# Altium schematic symbol library conn_b2b.SchLib: 77 symbols (part 2 of 3)
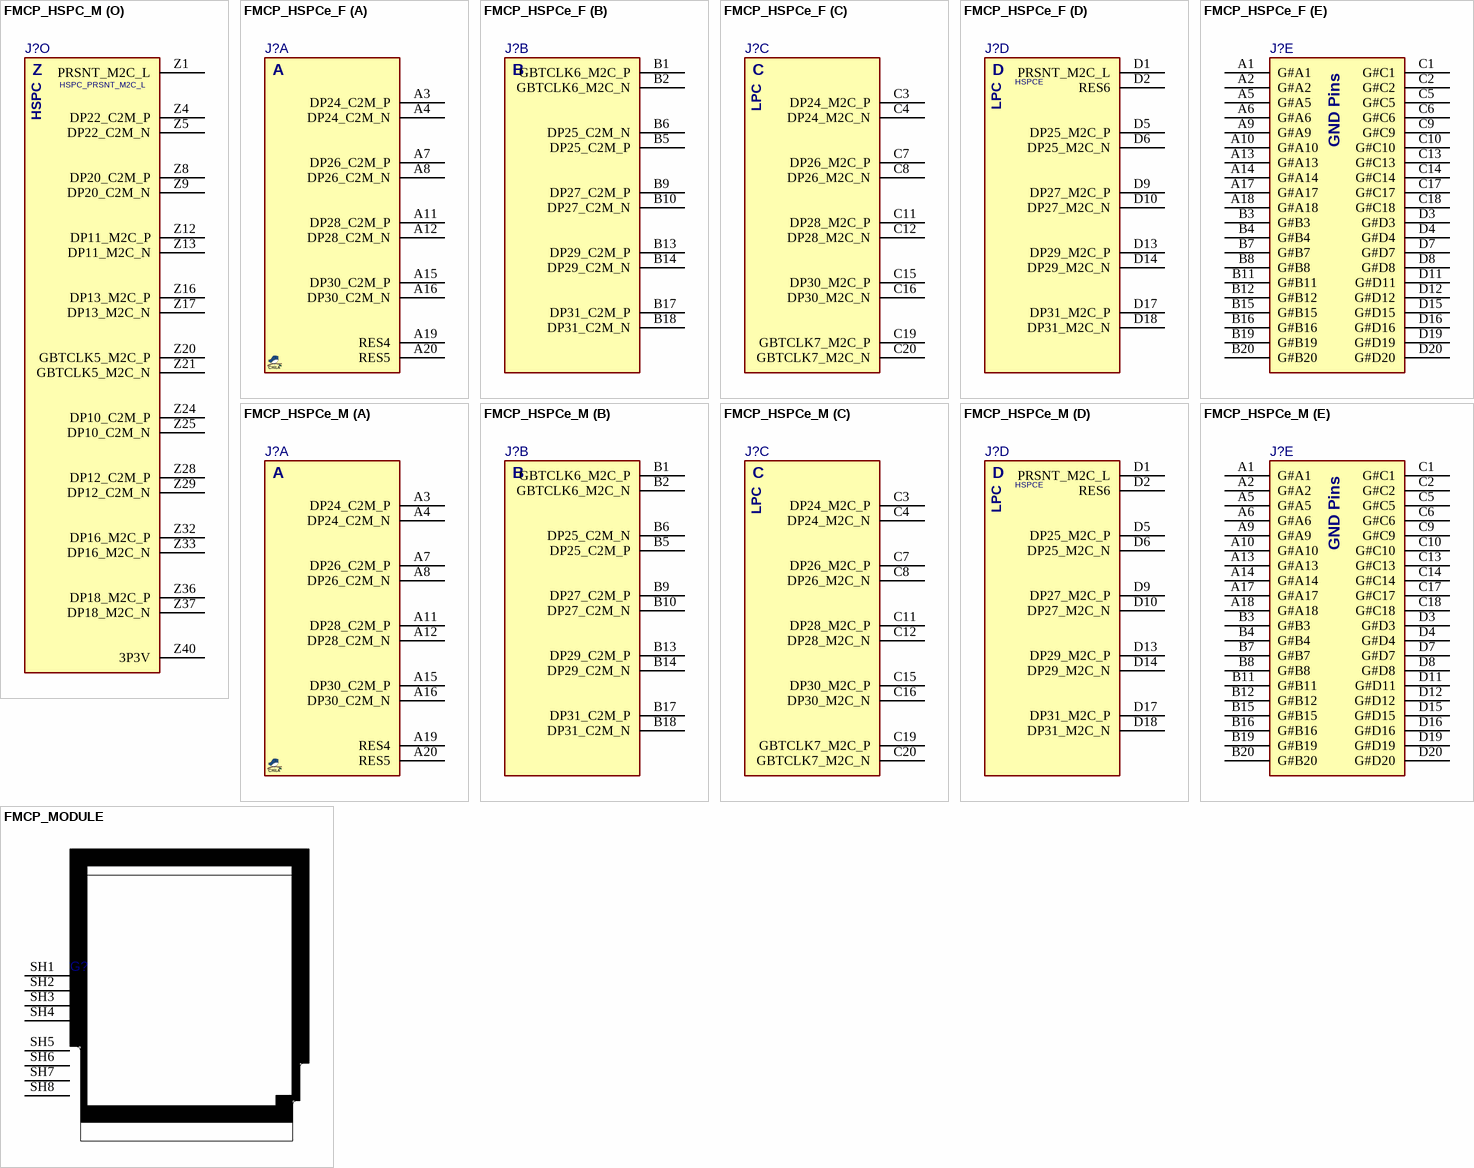
[diagram p24: symbols FMCP_HSPC_M to FMCP_MODULE]

## FMCP_HSPCe_M
designator J?, comment FMC+_HSPC_M  (value not drawn)
CONN, FMC+ HSPCe, 80PIN, MALE for Module; DESC: ASP-186900-01 for module/ ASP-186899-01 for carrier; MANF: SAMTEC; MANF_P#: ASP-186900-01, SEAM-20-03.5-S-04-1-A-K; PARAM: FMC+ HSPCe, 80PIN, Module; PRICE: 11$; VALUE: FMC+_HSPC_M
footprint FMCP_HSPCE_M (FMC+ Module HSPCe male, ASP-186900)
part A pins: A3 DP24_C2M_P, A4 DP24_C2M_N, A7 DP26_C2M_P, A8 DP26_C2M_N, A11 DP28_C2M_P, A12 DP28_C2M_N, A15 DP30_C2M_P, A16 DP30_C2M_N, A19 RES4, A20 RES5
part B pins: B1 GBTCLK6_M2C_P, B2 GBTCLK6_M2C_N, B5 DP25_C2M_P, B6 DP25_C2M_N, B9 DP27_C2M_P, B10 DP27_C2M_N, B13 DP29_C2M_P, B14 DP29_C2M_N, B17 DP31_C2M_P, B18 DP31_C2M_N
part C pins: C3 DP24_M2C_P, C4 DP24_M2C_N, C7 DP26_M2C_P, C8 DP26_M2C_N, C11 DP28_M2C_P, C12 DP28_M2C_N, C15 DP30_M2C_P, C16 DP30_M2C_N, C19 GBTCLK7_M2C_P, C20 GBTCLK7_M2C_N
part D pins: D1 PRSNT_M2C_L, D2 RES6, D5 DP25_M2C_P, D6 DP25_M2C_N, D9 DP27_M2C_P, D10 DP27_M2C_N, D13 DP29_M2C_P, D14 DP29_M2C_N, D17 DP31_M2C_P, D18 DP31_M2C_N
part E pins: A1 G#A1, A2 G#A2, A5 G#A5, A6 G#A6, A9 G#A9, A10 G#A10, A13 G#A13, A14 G#A14, A17 G#A17, A18 G#A18, B3 G#B3, B4 G#B4, B7 G#B7, B8 G#B8, B11 G#B11, B12 G#B12, B15 G#B15, B16 G#B16, B19 G#B19, B20 G#B20, C1 G#C1, C2 G#C2, C5 G#C5, C6 G#C6, C9 G#C9, C10 G#C10, C13 G#C13, C14 G#C14, C17 G#C17, C18 G#C18, D3 G#D3, D4 G#D4, D7 G#D7, D8 G#D8, D11 G#D11, D12 G#D12, D15 G#D15, D16 G#D16, D19 G#D19, D20 G#D20
part A text: A
part B text: B
part C text: C; LPC
part D text: D; HSPCE; LPC
part E text: GND Pins

## FMCP_MODULE
designator G?, comment FMC_Module  (value not drawn)  (no BOM)
FMC Module; VALUE: FMC_Module
footprint FMCP_MODULE (ASP-184330-01)
pins: SH1, SH2, SH3, SH4, SH5, SH6, SH7, SH8

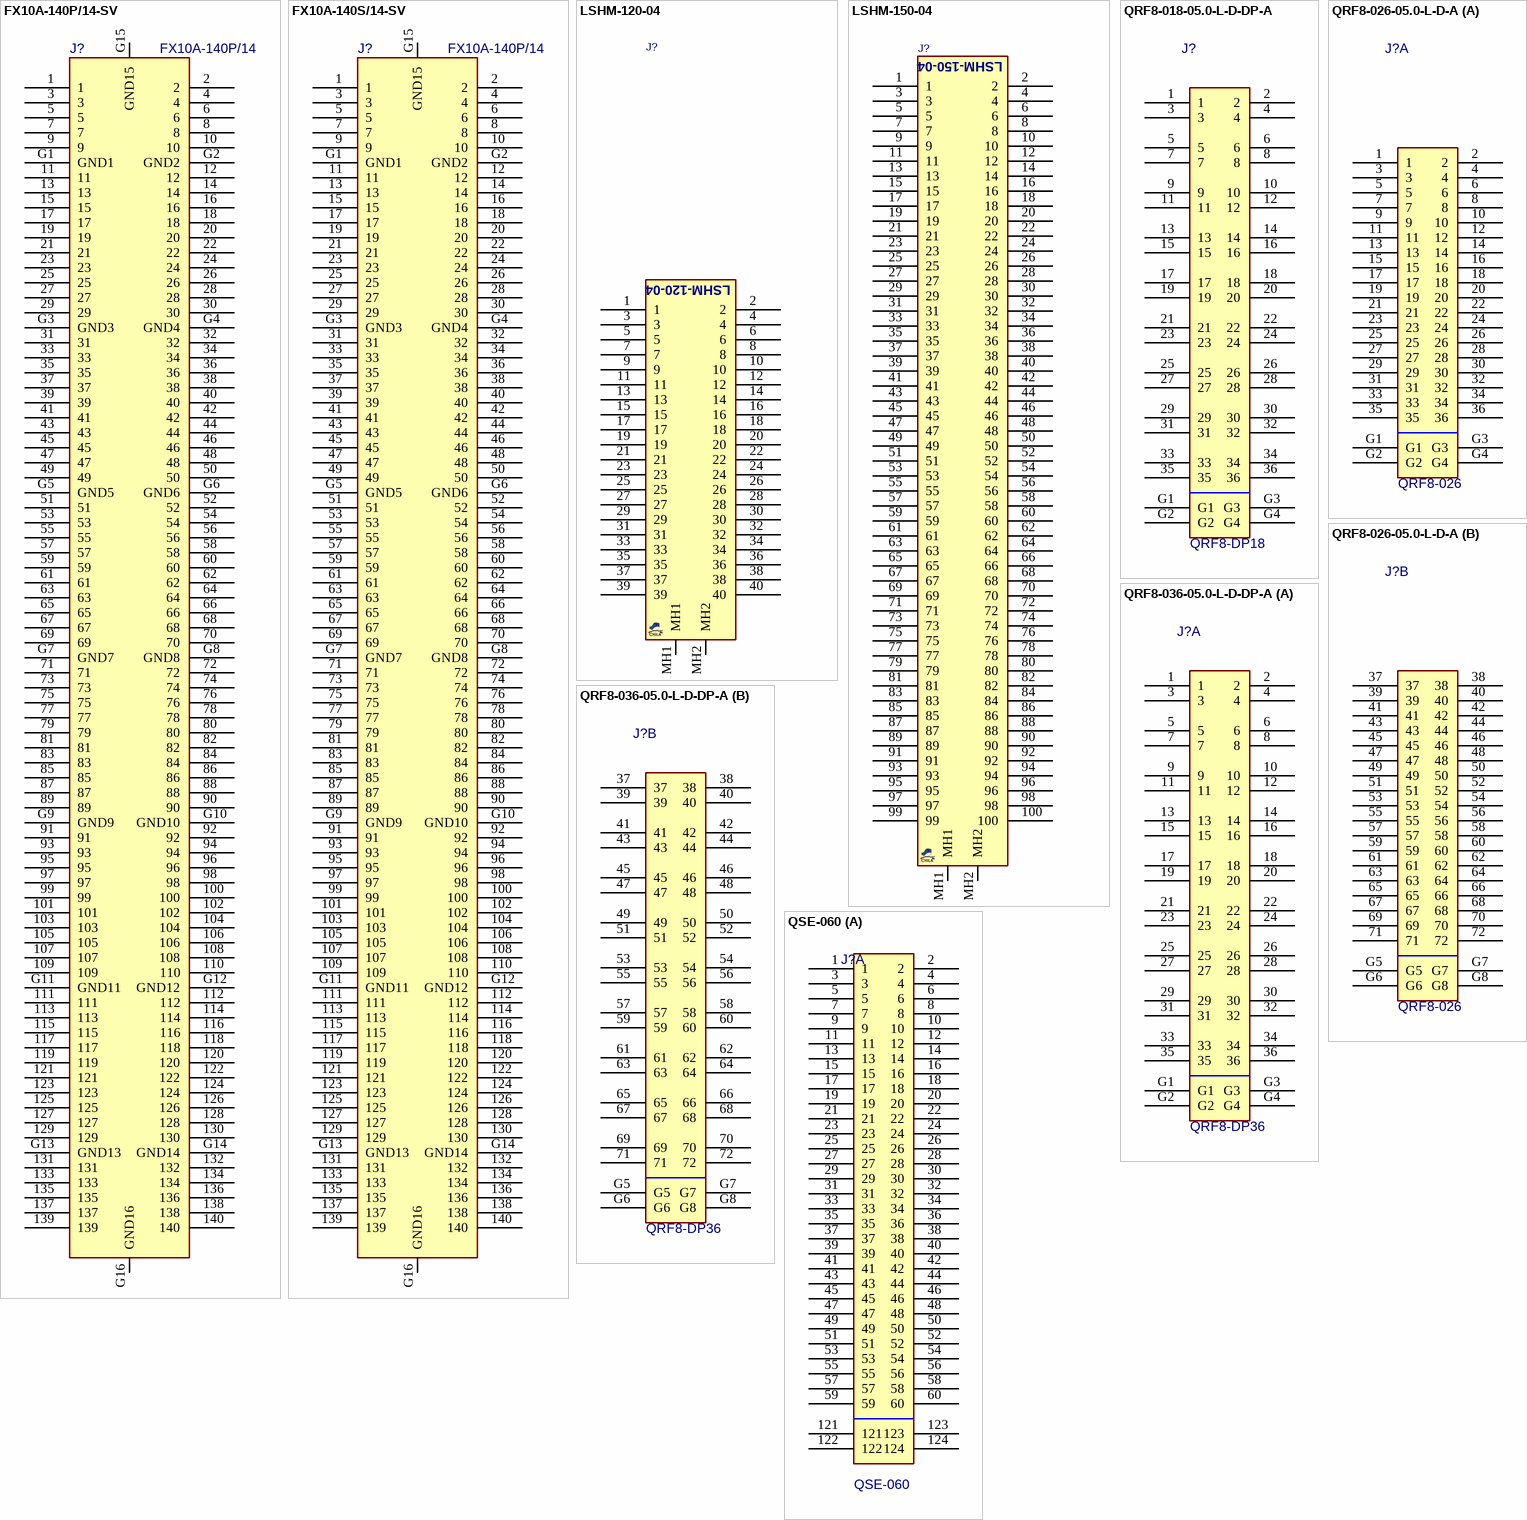
[diagram p11: symbols FX10A-140P/14-SV to QSE-060]

## FX10A-140P/14-SV
designator J?, comment FX10A-140P/14
FX10 Series B2B Connectors; MANF: HIROSE; DESC: Mating FX10A-140S/14-SV; MANF_P#: FX10A-140P/14-SV(71); PRICE: 6.4$; VALUE: FX10A-140P/14
footprint DF23C_20DS (Hirose Connector DF23C-20DS-0.5V(51) 20WAY pitch:0.5mm)
pins: 1, 2, 3, 4, 5, 6, 7, 8, 9, 10, 11, 12, 13, 14, 15, 16, 17, 18, 19, 20, 21, 22, 23, 24, 25, 26, 27, 28, 29, 30, 31, 32, 33, 34, 35, 36, 37, 38, 39, 40, 41, 42, 43, 44, 45, 46, 47, 48, 49, 50, 51, 52, 53, 54, 55, 56, 57, 58, 59, 60, 61, 62, 63, 64, 65, 66, 67, 68, 69, 70, 71, 72, 73, 74, 75, 76, 77, 78, 79, 80, 81, 82, 83, 84, 85, 86, 87, 88, 89, 90, 91, 92, 93, 94, 95, 96, 97, 98, 99, 100, 101, 102, 103, 104, 105, 106, 107, 108, 109, 110, 111, 112, 113, 114, 115, 116, 117, 118, 119, 120, 121, 122, 123, 124, 125, 126, 127, 128, 129, 130, 131, 132, 133, 134, 135, 136, 137, 138, 139, 140, G1 GND1 (power), G2 GND2 (power), G3 GND3 (power), G4 GND4 (power), G5 GND5 (power), G6 GND6 (power), G7 GND7 (power), G8 GND8 (power), G9 GND9 (power), G10 GND10 (power), G11 GND11 (power), G12 GND12 (power), G13 GND13 (power), G14 GND14 (power), G15 GND15, G16 GND16

## FX10A-140S/14-SV
designator J?, comment FX10A-140P/14
FX10 Series B2B Connectors; MANF: HIROSE; DESC: Mating FX10A-140P/14-SV(71); MANF_P#: FX10A-140S/14-SV; PRICE: 6.4$; VALUE: FX10A-140P/14
footprint FX10A_140S_14 (FX10A-140S/14-SV HIROSE)
pins: 1, 2, 3, 4, 5, 6, 7, 8, 9, 10, 11, 12, 13, 14, 15, 16, 17, 18, 19, 20, 21, 22, 23, 24, 25, 26, 27, 28, 29, 30, 31, 32, 33, 34, 35, 36, 37, 38, 39, 40, 41, 42, 43, 44, 45, 46, 47, 48, 49, 50, 51, 52, 53, 54, 55, 56, 57, 58, 59, 60, 61, 62, 63, 64, 65, 66, 67, 68, 69, 70, 71, 72, 73, 74, 75, 76, 77, 78, 79, 80, 81, 82, 83, 84, 85, 86, 87, 88, 89, 90, 91, 92, 93, 94, 95, 96, 97, 98, 99, 100, 101, 102, 103, 104, 105, 106, 107, 108, 109, 110, 111, 112, 113, 114, 115, 116, 117, 118, 119, 120, 121, 122, 123, 124, 125, 126, 127, 128, 129, 130, 131, 132, 133, 134, 135, 136, 137, 138, 139, 140, G1 GND1 (power), G2 GND2 (power), G3 GND3 (power), G4 GND4 (power), G5 GND5 (power), G6 GND6 (power), G7 GND7 (power), G8 GND8 (power), G9 GND9 (power), G10 GND10 (power), G11 GND11 (power), G12 GND12 (power), G13 GND13 (power), G14 GND14 (power), G15 GND15, G16 GND16

## LSHM-120-04
designator J?  (value not drawn)
CONN, HI-SPD, Up to6/12Gbps, Hermaphroditic Terminal/Socket; MANF: SAMTEC; MANF_P#: LSHM-120-04.0-L-DV-A-S-K-TR; PARAM2: 5~12mm stack heights, 20X2position; PARAM: Up to6/12Gbps, Hermaphroditic Terminal/Socket; PRICE: 5$; VALUE: LSHM-120-04
footprint LSHM120_04 (Footprint not found)
pins: 1, 2, 3, 4, 5, 6, 7, 8, 9, 10, 11, 12, 13, 14, 15, 16, 17, 18, 19, 20, 21, 22, 23, 24, 25, 26, 27, 28, 29, 30, 31, 32, 33, 34, 35, 36, 37, 38, 39, 40, MH1, MH2

## LSHM-150-04
designator J?  (value not drawn)
CONN, HI-SPD, Up to6/12Gbps, Hermaphroditic Terminal/Socket; MANF: SAMTEC; MANF_P#: LSHM-150-04.0-L-DV-A-S-K-TR; PARAM2: 5~12mm stack heights, 50X2position; PARAM: Up to6/12Gbps, Hermaphroditic Terminal/Socket; PRICE: 12$; VALUE: LSHM-150-04
footprint LSHM150_04 (LSHM-150-04.0-L-DV-A-S)
pins: 1, 2, 3, 4, 5, 6, 7, 8, 9, 10, 11, 12, 13, 14, 15, 16, 17, 18, 19, 20, 21, 22, 23, 24, 25, 26, 27, 28, 29, 30, 31, 32, 33, 34, 35, 36, 37, 38, 39, 40, 41, 42, 43, 44, 45, 46, 47, 48, 49, 50, 51, 52, 53, 54, 55, 56, 57, 58, 59, 60, 61, 62, 63, 64, 65, 66, 67, 68, 69, 70, 71, 72, 73, 74, 75, 76, 77, 78, 79, 80, 81, 82, 83, 84, 85, 86, 87, 88, 89, 90, 91, 92, 93, 94, 95, 96, 97, 98, 99, 100, MH1, MH2

## QRF8-018-05.0-L-D-DP-A
designator J?, comment QRF8-DP18
CONN, HI-SPD, Up to10/20Gbps, ground plane, Slim-width4.6mm, , Diff-Pair; MANF: SAMTEC; MANF_P#: QRF8-018-05.0-L-D-DP-A; PARAM2: width4.6mm, 7~14mm stack heights; PARAM: Up to10/20Gbps, ground plane, pitch0.8mm; VALUE: QRF8-DP18
footprint QRF8_018_D_DP_A (Samtec, QRF8-018-D-DP-A, 0.80 mm Q Rate® High-Speed Ground Plane Slim Body Socket Strip, Differential Pair)
pins: 1, 2, 3, 4, 5, 6, 7, 8, 9, 10, 11, 12, 13, 14, 15, 16, 17, 18, 19, 20, 21, 22, 23, 24, 25, 26, 27, 28, 29, 30, 31, 32, 33, 34, 35, 36, G1, G2, G3, G4

## QRF8-026-05.0-L-D-A
designator J?, comment QRF8-026
CONN, HI-SPD, Up to10Gbps, ground plane; MANF: SAMTEC; MANF_P#: QRF8-026-05.0-L-D-A; PARAM2: width4.6mm; PARAM: Up to10/20Gbps, ground plane, pitch0.8mm; VALUE: QRF8-026
footprint QRF8_026_L_D_A (CONN, B2B, SAMTEC, QRF8, QRF8-026-05.0-L-D-A, 0.80 mm Q Rate® Slim Body Ground Plane Socket)
part A pins: 1, 2, 3, 4, 5, 6, 7, 8, 9, 10, 11, 12, 13, 14, 15, 16, 17, 18, 19, 20, 21, 22, 23, 24, 25, 26, 27, 28, 29, 30, 31, 32, 33, 34, 35, 36, G1, G2, G3, G4
part B pins: 37, 38, 39, 40, 41, 42, 43, 44, 45, 46, 47, 48, 49, 50, 51, 52, 53, 54, 55, 56, 57, 58, 59, 60, 61, 62, 63, 64, 65, 66, 67, 68, 69, 70, 71, 72, G5, G6, G7, G8

## QRF8-036-05.0-L-D-DP-A
designator J?, comment QRF8-DP36
CONN, HI-SPD, Up to10/20Gbps, ground plane, Slim-width4.6mm, Diff-Pair; MANF: SAMTEC; MANF_P#: QRF8-036-05.0-L-D-DP-A; PARAM2: width4.6mm, 7~14mm stack heights; PARAM: Up to10/20Gbps, ground plane, pitch0.8mm; VALUE: QRF8-DP36
footprint QRF8_036_D_DP_A (Samtec, QRF8-036-D-DP-A, 0.80 mm Q Rate® High-Speed Ground Plane Slim Body Socket Strip, Differential Pair)
part A pins: 1, 2, 3, 4, 5, 6, 7, 8, 9, 10, 11, 12, 13, 14, 15, 16, 17, 18, 19, 20, 21, 22, 23, 24, 25, 26, 27, 28, 29, 30, 31, 32, 33, 34, 35, 36, G1, G2, G3, G4
part B pins: 37, 38, 39, 40, 41, 42, 43, 44, 45, 46, 47, 48, 49, 50, 51, 52, 53, 54, 55, 56, 57, 58, 59, 60, 61, 62, 63, 64, 65, 66, 67, 68, 69, 70, 71, 72, G5, G6, G7, G8

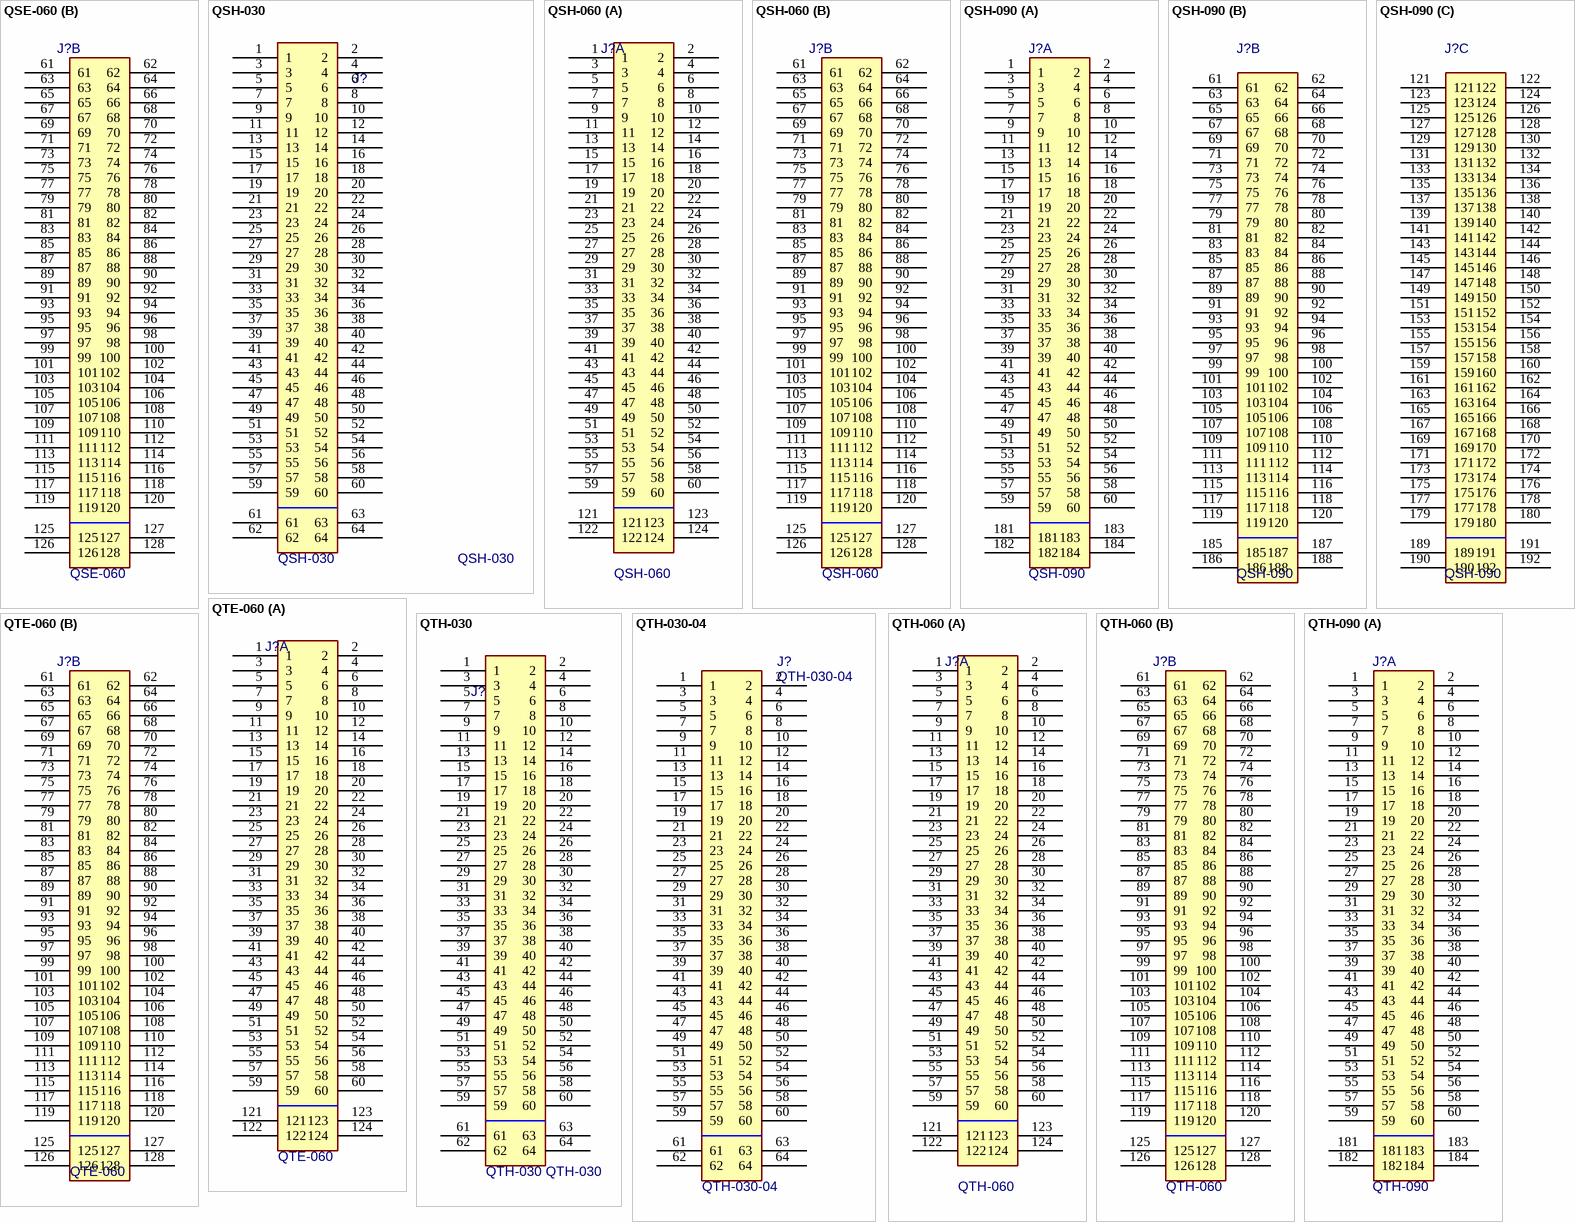
[diagram p12: symbols QSE-060 to QTH-090]

## QSE-060
designator J?
CONN, HI-SPD, Q-strip, 0.8mm pitch, Socket, 120P; MANF: SAMTEC; MANF_P#: QSE-060-01-X-D-A; VALUE: QSE-060
footprint QSE_060_01 (samtec 0.80 mm Q Strip® High Speed Ground Plane Socket Strip)
part A pins: 1, 2, 3, 4, 5, 6, 7, 8, 9, 10, 11, 12, 13, 14, 15, 16, 17, 18, 19, 20, 21, 22, 23, 24, 25, 26, 27, 28, 29, 30, 31, 32, 33, 34, 35, 36, 37, 38, 39, 40, 41, 42, 43, 44, 45, 46, 47, 48, 49, 50, 51, 52, 53, 54, 55, 56, 57, 58, 59, 60, 121, 122, 123, 124
part B pins: 61, 62, 63, 64, 65, 66, 67, 68, 69, 70, 71, 72, 73, 74, 75, 76, 77, 78, 79, 80, 81, 82, 83, 84, 85, 86, 87, 88, 89, 90, 91, 92, 93, 94, 95, 96, 97, 98, 99, 100, 101, 102, 103, 104, 105, 106, 107, 108, 109, 110, 111, 112, 113, 114, 115, 116, 117, 118, 119, 120, 125, 126, 127, 128

## QSH-030
designator J?
CONN, HI-SPD, Q-strip, 0.5mm pitch, Socket, 60P; MANF: SAMTEC; MANF_P#: QSH-030-01-L-D-A; DESC: 5mm, 8mm, 11mm, 16mm, 19mm, 25mm, Mating QTH-030-02-L-D-A; PRICE: 1=8.96, 10=8.288, 25=7.84, 50=7.4368, 100=6.944, 250=6.048, 500=5.824, 1000=5.6 (USD); Value: QSH-030
footprint QSH_030_01 (samtec 0.50mm Q Strip® High Speed Ground Plane Socket Strip)
pins: 1, 2, 3, 4, 5, 6, 7, 8, 9, 10, 11, 12, 13, 14, 15, 16, 17, 18, 19, 20, 21, 22, 23, 24, 25, 26, 27, 28, 29, 30, 31, 32, 33, 34, 35, 36, 37, 38, 39, 40, 41, 42, 43, 44, 45, 46, 47, 48, 49, 50, 51, 52, 53, 54, 55, 56, 57, 58, 59, 60, 61, 62, 63, 64, 65 HOLE1 hidden, 66 HOLE2 hidden

## QSH-060
designator J?
CONN, HI-SPD, Q-strip, 0.5mm pitch, Socket, 120P; MANF: SAMTEC; MANF_P#: QSH-060-01-X-D-A; VALUE: QSH-060
footprint QSH_060_01 (samtec 0.50mm Q Strip® High Speed Ground Plane Socket Strip, QSH-060-01-L-D-A)
part A pins: 1, 2, 3, 4, 5, 6, 7, 8, 9, 10, 11, 12, 13, 14, 15, 16, 17, 18, 19, 20, 21, 22, 23, 24, 25, 26, 27, 28, 29, 30, 31, 32, 33, 34, 35, 36, 37, 38, 39, 40, 41, 42, 43, 44, 45, 46, 47, 48, 49, 50, 51, 52, 53, 54, 55, 56, 57, 58, 59, 60, 121, 122, 123, 124
part B pins: 61, 62, 63, 64, 65, 66, 67, 68, 69, 70, 71, 72, 73, 74, 75, 76, 77, 78, 79, 80, 81, 82, 83, 84, 85, 86, 87, 88, 89, 90, 91, 92, 93, 94, 95, 96, 97, 98, 99, 100, 101, 102, 103, 104, 105, 106, 107, 108, 109, 110, 111, 112, 113, 114, 115, 116, 117, 118, 119, 120, 125, 126, 127, 128

## QSH-090
designator J?
CONN, HI-SPD, Q-strip, 0.5mm pitch, Socket, 180P; MANF: SAMTEC; MANF_P#: QSH-090-01-X-D-A; VALUE: QSH-090
footprint QSH_090_01 (Speed Ground Plane Socket Strip, QSH-060-01-L-D-A)
part A pins: 1, 2, 3, 4, 5, 6, 7, 8, 9, 10, 11, 12, 13, 14, 15, 16, 17, 18, 19, 20, 21, 22, 23, 24, 25, 26, 27, 28, 29, 30, 31, 32, 33, 34, 35, 36, 37, 38, 39, 40, 41, 42, 43, 44, 45, 46, 47, 48, 49, 50, 51, 52, 53, 54, 55, 56, 57, 58, 59, 60, 181, 182, 183, 184
part B pins: 61, 62, 63, 64, 65, 66, 67, 68, 69, 70, 71, 72, 73, 74, 75, 76, 77, 78, 79, 80, 81, 82, 83, 84, 85, 86, 87, 88, 89, 90, 91, 92, 93, 94, 95, 96, 97, 98, 99, 100, 101, 102, 103, 104, 105, 106, 107, 108, 109, 110, 111, 112, 113, 114, 115, 116, 117, 118, 119, 120, 185, 186, 187, 188
part C pins: 121, 122, 123, 124, 125, 126, 127, 128, 129, 130, 131, 132, 133, 134, 135, 136, 137, 138, 139, 140, 141, 142, 143, 144, 145, 146, 147, 148, 149, 150, 151, 152, 153, 154, 155, 156, 157, 158, 159, 160, 161, 162, 163, 164, 165, 166, 167, 168, 169, 170, 171, 172, 173, 174, 175, 176, 177, 178, 179, 180, 189, 190, 191, 192

## QTE-060
designator J?
CONN, HI-SPD, Q-strip, 0.8mm pitch, Terminal, 120P; MANF: SAMTEC; MANF_P#: QTE-060-03-X-D-A; VALUE: QTE-060
footprint QTE_060_03 (samtec 0.80 mm Q Strip® High Speed Ground Plane Terminal Strip)
part A pins: 1, 2, 3, 4, 5, 6, 7, 8, 9, 10, 11, 12, 13, 14, 15, 16, 17, 18, 19, 20, 21, 22, 23, 24, 25, 26, 27, 28, 29, 30, 31, 32, 33, 34, 35, 36, 37, 38, 39, 40, 41, 42, 43, 44, 45, 46, 47, 48, 49, 50, 51, 52, 53, 54, 55, 56, 57, 58, 59, 60, 121, 122, 123, 124
part B pins: 61, 62, 63, 64, 65, 66, 67, 68, 69, 70, 71, 72, 73, 74, 75, 76, 77, 78, 79, 80, 81, 82, 83, 84, 85, 86, 87, 88, 89, 90, 91, 92, 93, 94, 95, 96, 97, 98, 99, 100, 101, 102, 103, 104, 105, 106, 107, 108, 109, 110, 111, 112, 113, 114, 115, 116, 117, 118, 119, 120, 125, 126, 127, 128

## QTH-030
designator J?
CONN, HI-SPD, Q-strip, 0.5mm pitch, Terminal, 60P; MANF: SAMTEC; MANF_P#: QTH-030-01-L-D-A; DESC: 5mm, Mating QSH-030-01-L-D-A; PRICE: 1=9.14, 10=8.455, 25=7.9976, 50=7.5862, 100=7.0835, 250=6.16952, 500=5.941, 1000=5.7125(USD); Value: QTH-030
footprint QTH_030_01 (samtec 0.50 mm Q Strip® High Speed Ground Plane Terminal Strip)
pins: 1, 2, 3, 4, 5, 6, 7, 8, 9, 10, 11, 12, 13, 14, 15, 16, 17, 18, 19, 20, 21, 22, 23, 24, 25, 26, 27, 28, 29, 30, 31, 32, 33, 34, 35, 36, 37, 38, 39, 40, 41, 42, 43, 44, 45, 46, 47, 48, 49, 50, 51, 52, 53, 54, 55, 56, 57, 58, 59, 60, 61, 62, 63, 64, 65 HOLE1 hidden, 66 HOLE2 hidden

## QTH-030-04
designator J?
CONN, HI-SPD, Q-strip, 0.5mm pitch, Terminal, 60P; MANF: SAMTEC; MANF_P#: QTH-030-04-L-D-A; DESC: 19mm; ASSEMBLY: ASSEMBLY; Value: QTH-030-04
footprint QTH_030_04 (samtec 0.50 mm Q Strip® High Speed Ground Plane Terminal Strip)
pins: 1, 2, 3, 4, 5, 6, 7, 8, 9, 10, 11, 12, 13, 14, 15, 16, 17, 18, 19, 20, 21, 22, 23, 24, 25, 26, 27, 28, 29, 30, 31, 32, 33, 34, 35, 36, 37, 38, 39, 40, 41, 42, 43, 44, 45, 46, 47, 48, 49, 50, 51, 52, 53, 54, 55, 56, 57, 58, 59, 60, 61, 62, 63, 64, 65 HOLE1 hidden, 66 HOLE2 hidden

## QTH-060
designator J?
CONN, HI-SPD, Q-strip, 0.5mm pitch, Terminal, 120P; MANF: SAMTEC; MANF_P#: QTH-060-01-X-D-A; VALUE: QTH-060
footprint QTH_060_01 (samtec 0.50 mm Q Strip® High Speed Ground Plane Terminal Strip)
part A pins: 1, 2, 3, 4, 5, 6, 7, 8, 9, 10, 11, 12, 13, 14, 15, 16, 17, 18, 19, 20, 21, 22, 23, 24, 25, 26, 27, 28, 29, 30, 31, 32, 33, 34, 35, 36, 37, 38, 39, 40, 41, 42, 43, 44, 45, 46, 47, 48, 49, 50, 51, 52, 53, 54, 55, 56, 57, 58, 59, 60, 121, 122, 123, 124
part B pins: 61, 62, 63, 64, 65, 66, 67, 68, 69, 70, 71, 72, 73, 74, 75, 76, 77, 78, 79, 80, 81, 82, 83, 84, 85, 86, 87, 88, 89, 90, 91, 92, 93, 94, 95, 96, 97, 98, 99, 100, 101, 102, 103, 104, 105, 106, 107, 108, 109, 110, 111, 112, 113, 114, 115, 116, 117, 118, 119, 120, 125, 126, 127, 128

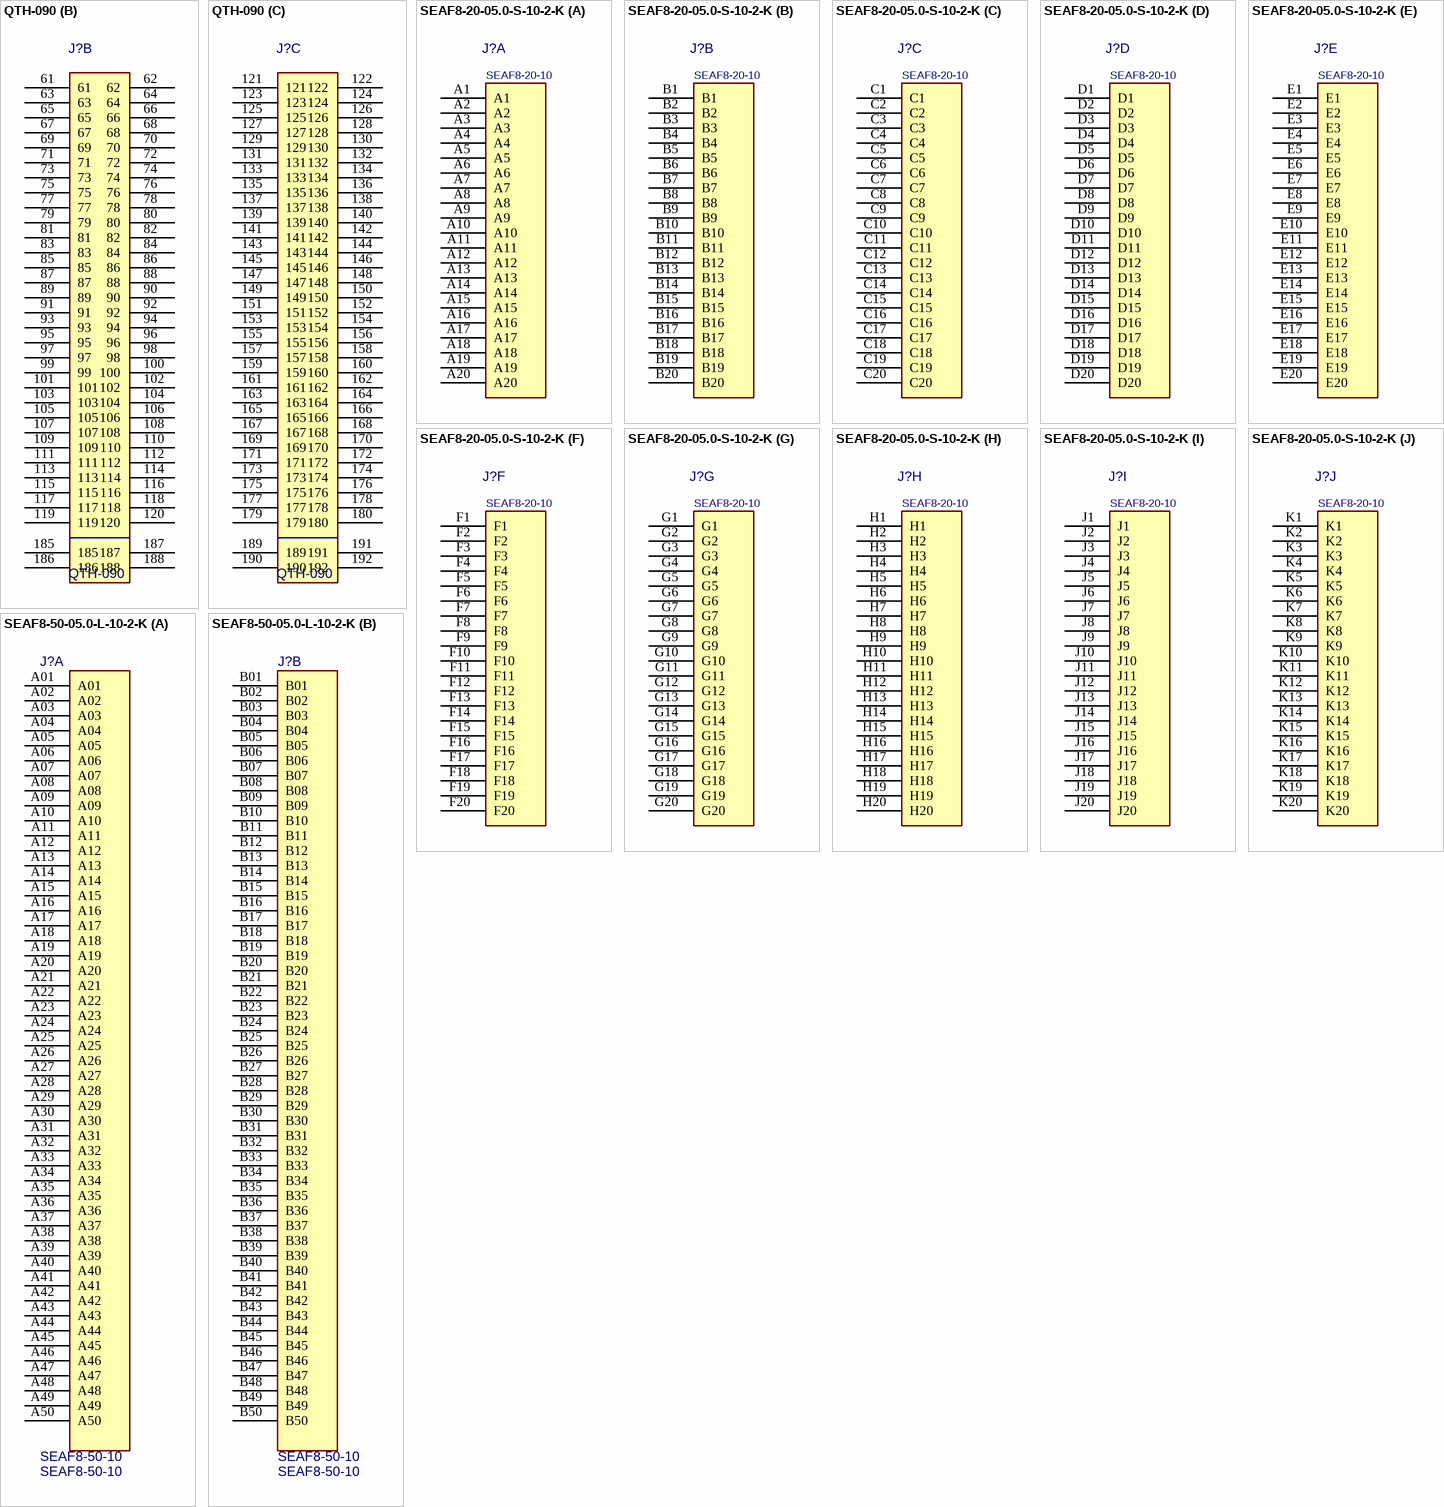
[diagram p13: symbols QTH-090 to SEAF8-50-05.0-L-10-2-K]

## QTH-090
designator J?
CONN, HI-SPD, Q-strip, 0.5mm pitch, Terminal, 180P; MANF: SAMTEC; MANF_P#: QTH-090-01-F-D-A; VALUE: QTH-090
footprint QTH_090_01 (samtec 0.50 mm Q Strip® High Speed Ground Plane Terminal Strip)
part A pins: 1, 2, 3, 4, 5, 6, 7, 8, 9, 10, 11, 12, 13, 14, 15, 16, 17, 18, 19, 20, 21, 22, 23, 24, 25, 26, 27, 28, 29, 30, 31, 32, 33, 34, 35, 36, 37, 38, 39, 40, 41, 42, 43, 44, 45, 46, 47, 48, 49, 50, 51, 52, 53, 54, 55, 56, 57, 58, 59, 60, 181, 182, 183, 184
part B pins: 61, 62, 63, 64, 65, 66, 67, 68, 69, 70, 71, 72, 73, 74, 75, 76, 77, 78, 79, 80, 81, 82, 83, 84, 85, 86, 87, 88, 89, 90, 91, 92, 93, 94, 95, 96, 97, 98, 99, 100, 101, 102, 103, 104, 105, 106, 107, 108, 109, 110, 111, 112, 113, 114, 115, 116, 117, 118, 119, 120, 185, 186, 187, 188
part C pins: 121, 122, 123, 124, 125, 126, 127, 128, 129, 130, 131, 132, 133, 134, 135, 136, 137, 138, 139, 140, 141, 142, 143, 144, 145, 146, 147, 148, 149, 150, 151, 152, 153, 154, 155, 156, 157, 158, 159, 160, 161, 162, 163, 164, 165, 166, 167, 168, 169, 170, 171, 172, 173, 174, 175, 176, 177, 178, 179, 180, 189, 190, 191, 192

## SEAF8-20-05.0-S-10-2-K
designator J?, comment SEAF8-20-10
Samtec 0.80 mm SEARAY™ High-Speed High-Density; MANF_P#: SEAF8-20-05.0-S-10-2-K; PARAM2: 20columns X 10rows; PARAM: Up-to12Gbps, pitch0.8mm Array; MANF: SAMTEC; VALUE: SEAF8-20-10
footprint SEAF8_20_S_10 (CONN, B2B, SAMTEC, SEAF8-20-05.0-S-10-2-K)
part A pins: A1, A2, A3, A4, A5, A6, A7, A8, A9, A10, A11, A12, A13, A14, A15, A16, A17, A18, A19, A20
part B pins: B1, B2, B3, B4, B5, B6, B7, B8, B9, B10, B11, B12, B13, B14, B15, B16, B17, B18, B19, B20
part C pins: C1, C2, C3, C4, C5, C6, C7, C8, C9, C10, C11, C12, C13, C14, C15, C16, C17, C18, C19, C20
part D pins: D1, D2, D3, D4, D5, D6, D7, D8, D9, D10, D11, D12, D13, D14, D15, D16, D17, D18, D19, D20
part E pins: E1, E2, E3, E4, E5, E6, E7, E8, E9, E10, E11, E12, E13, E14, E15, E16, E17, E18, E19, E20
part F pins: F1, F2, F3, F4, F5, F6, F7, F8, F9, F10, F11, F12, F13, F14, F15, F16, F17, F18, F19, F20
part G pins: G1, G2, G3, G4, G5, G6, G7, G8, G9, G10, G11, G12, G13, G14, G15, G16, G17, G18, G19, G20
part H pins: H1, H2, H3, H4, H5, H6, H7, H8, H9, H10, H11, H12, H13, H14, H15, H16, H17, H18, H19, H20
part I pins: J1, J2, J3, J4, J5, J6, J7, J8, J9, J10, J11, J12, J13, J14, J15, J16, J17, J18, J19, J20
part J pins: K1, K2, K3, K4, K5, K6, K7, K8, K9, K10, K11, K12, K13, K14, K15, K16, K17, K18, K19, K20

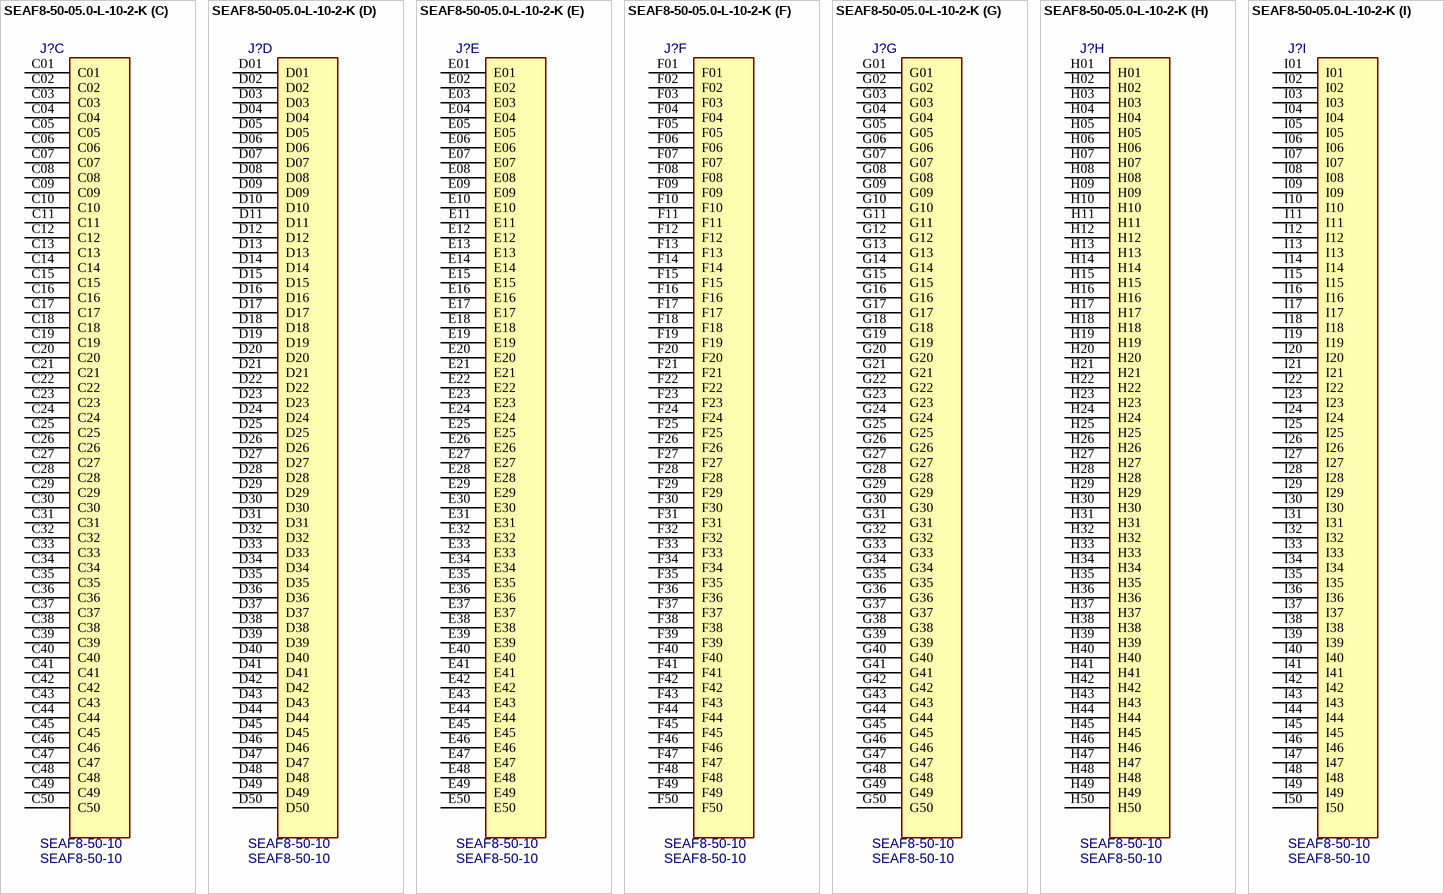
[diagram p14: symbol SEAF8-50-05.0-L-10-2-K]

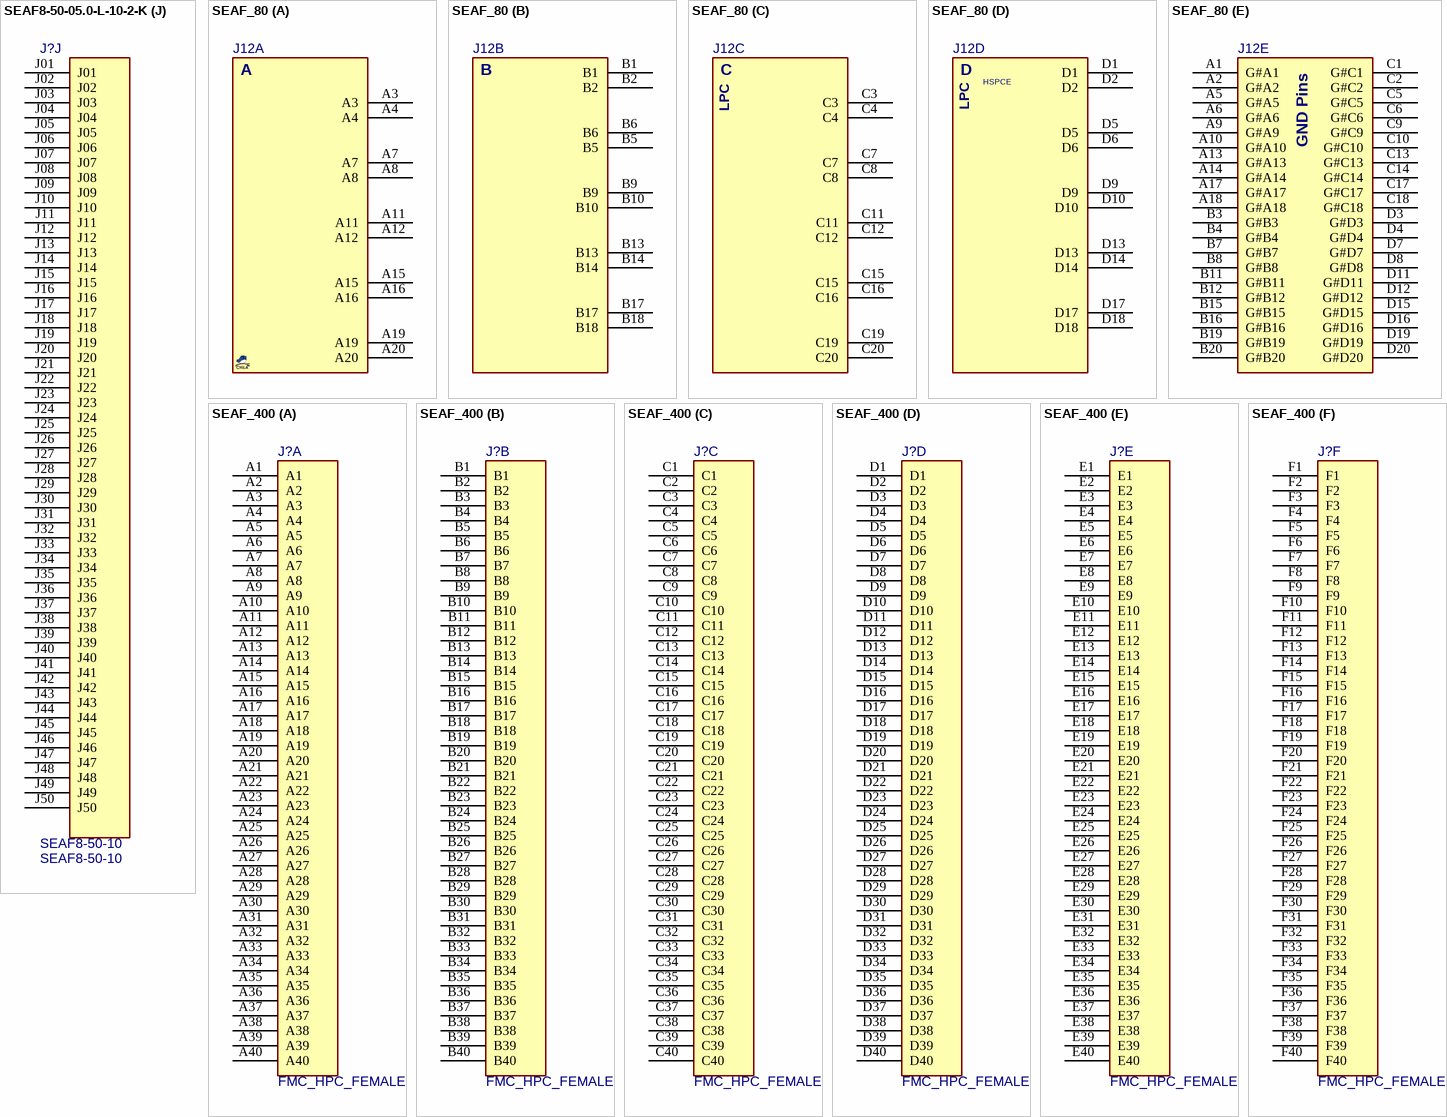
[diagram p15: symbols SEAF8-50-05.0-L-10-2-K to SEAF_400]

## SEAF8-50-05.0-L-10-2-K
designator J?, comment SEAF8-50-10
0.80 mm SEARAY High-Speed High-Density Open-Pin-Field Array Socket; MANF: SAMTEC; MANF_P#: SEAF8-50-05.0-L-10-2-K; PARAM2: 20columns X 10rows; PARAM: Up-to12Gbps, pitch0.8mm Array; Value: SEAF8-50-10
footprint SEAF8_50_10_H5 (CONN, B2B, SAMTEC, SEAF8-50-05.0-L-10-2-K)
part A pins: A01, A02, A03, A04, A05, A06, A07, A08, A09, A10, A11, A12, A13, A14, A15, A16, A17, A18, A19, A20, A21, A22, A23, A24, A25, A26, A27, A28, A29, A30, A31, A32, A33, A34, A35, A36, A37, A38, A39, A40, A41, A42, A43, A44, A45, A46, A47, A48, A49, A50
part B pins: B01, B02, B03, B04, B05, B06, B07, B08, B09, B10, B11, B12, B13, B14, B15, B16, B17, B18, B19, B20, B21, B22, B23, B24, B25, B26, B27, B28, B29, B30, B31, B32, B33, B34, B35, B36, B37, B38, B39, B40, B41, B42, B43, B44, B45, B46, B47, B48, B49, B50
part C pins: C01, C02, C03, C04, C05, C06, C07, C08, C09, C10, C11, C12, C13, C14, C15, C16, C17, C18, C19, C20, C21, C22, C23, C24, C25, C26, C27, C28, C29, C30, C31, C32, C33, C34, C35, C36, C37, C38, C39, C40, C41, C42, C43, C44, C45, C46, C47, C48, C49, C50
part D pins: D01, D02, D03, D04, D05, D06, D07, D08, D09, D10, D11, D12, D13, D14, D15, D16, D17, D18, D19, D20, D21, D22, D23, D24, D25, D26, D27, D28, D29, D30, D31, D32, D33, D34, D35, D36, D37, D38, D39, D40, D41, D42, D43, D44, D45, D46, D47, D48, D49, D50
part E pins: E01, E02, E03, E04, E05, E06, E07, E08, E09, E10, E11, E12, E13, E14, E15, E16, E17, E18, E19, E20, E21, E22, E23, E24, E25, E26, E27, E28, E29, E30, E31, E32, E33, E34, E35, E36, E37, E38, E39, E40, E41, E42, E43, E44, E45, E46, E47, E48, E49, E50
part F pins: F01, F02, F03, F04, F05, F06, F07, F08, F09, F10, F11, F12, F13, F14, F15, F16, F17, F18, F19, F20, F21, F22, F23, F24, F25, F26, F27, F28, F29, F30, F31, F32, F33, F34, F35, F36, F37, F38, F39, F40, F41, F42, F43, F44, F45, F46, F47, F48, F49, F50
part G pins: G01, G02, G03, G04, G05, G06, G07, G08, G09, G10, G11, G12, G13, G14, G15, G16, G17, G18, G19, G20, G21, G22, G23, G24, G25, G26, G27, G28, G29, G30, G31, G32, G33, G34, G35, G36, G37, G38, G39, G40, G41, G42, G43, G44, G45, G46, G47, G48, G49, G50
part H pins: H01, H02, H03, H04, H05, H06, H07, H08, H09, H10, H11, H12, H13, H14, H15, H16, H17, H18, H19, H20, H21, H22, H23, H24, H25, H26, H27, H28, H29, H30, H31, H32, H33, H34, H35, H36, H37, H38, H39, H40, H41, H42, H43, H44, H45, H46, H47, H48, H49, H50
part I pins: I01, I02, I03, I04, I05, I06, I07, I08, I09, I10, I11, I12, I13, I14, I15, I16, I17, I18, I19, I20, I21, I22, I23, I24, I25, I26, I27, I28, I29, I30, I31, I32, I33, I34, I35, I36, I37, I38, I39, I40, I41, I42, I43, I44, I45, I46, I47, I48, I49, I50
part J pins: J01, J02, J03, J04, J05, J06, J07, J08, J09, J10, J11, J12, J13, J14, J15, J16, J17, J18, J19, J20, J21, J22, J23, J24, J25, J26, J27, J28, J29, J30, J31, J32, J33, J34, J35, J36, J37, J38, J39, J40, J41, J42, J43, J44, J45, J46, J47, J48, J49, J50

## SEAF_80
designator J12, comment FMC+_HSPC_M  (value not drawn)
CONN, FMC+ HSPCe, 80PIN, MALE for Module; DESC: ASP-186900-01 for module/ ASP-186899-01 for carrier; MANF: SAMTEC; MANF_P#: ASP-186899-01, SEAF-20-06.5-04-A; PARAM: FMC+ HSPCe, 80PIN, Module; PRICE: 11$; VALUE: FMC+_HSPC_M
footprint FMCP_HSPCE_M (FMC+ Module HSPCe male, ASP-186900)
part A pins: A3, A4, A7, A8, A11, A12, A15, A16, A19, A20
part B pins: B1, B2, B5, B6, B9, B10, B13, B14, B17, B18
part C pins: C3, C4, C7, C8, C11, C12, C15, C16, C19, C20
part D pins: D1, D2, D5, D6, D9, D10, D13, D14, D17, D18
part E pins: A1 G#A1, A2 G#A2, A5 G#A5, A6 G#A6, A9 G#A9, A10 G#A10, A13 G#A13, A14 G#A14, A17 G#A17, A18 G#A18, B3 G#B3, B4 G#B4, B7 G#B7, B8 G#B8, B11 G#B11, B12 G#B12, B15 G#B15, B16 G#B16, B19 G#B19, B20 G#B20, C1 G#C1, C2 G#C2, C5 G#C5, C6 G#C6, C9 G#C9, C10 G#C10, C13 G#C13, C14 G#C14, C17 G#C17, C18 G#C18, D3 G#D3, D4 G#D4, D7 G#D7, D8 G#D8, D11 G#D11, D12 G#D12, D15 G#D15, D16 G#D16, D19 G#D19, D20 G#D20
part A text: A
part B text: B
part C text: C; LPC
part D text: D; HSPCE; LPC
part E text: GND Pins

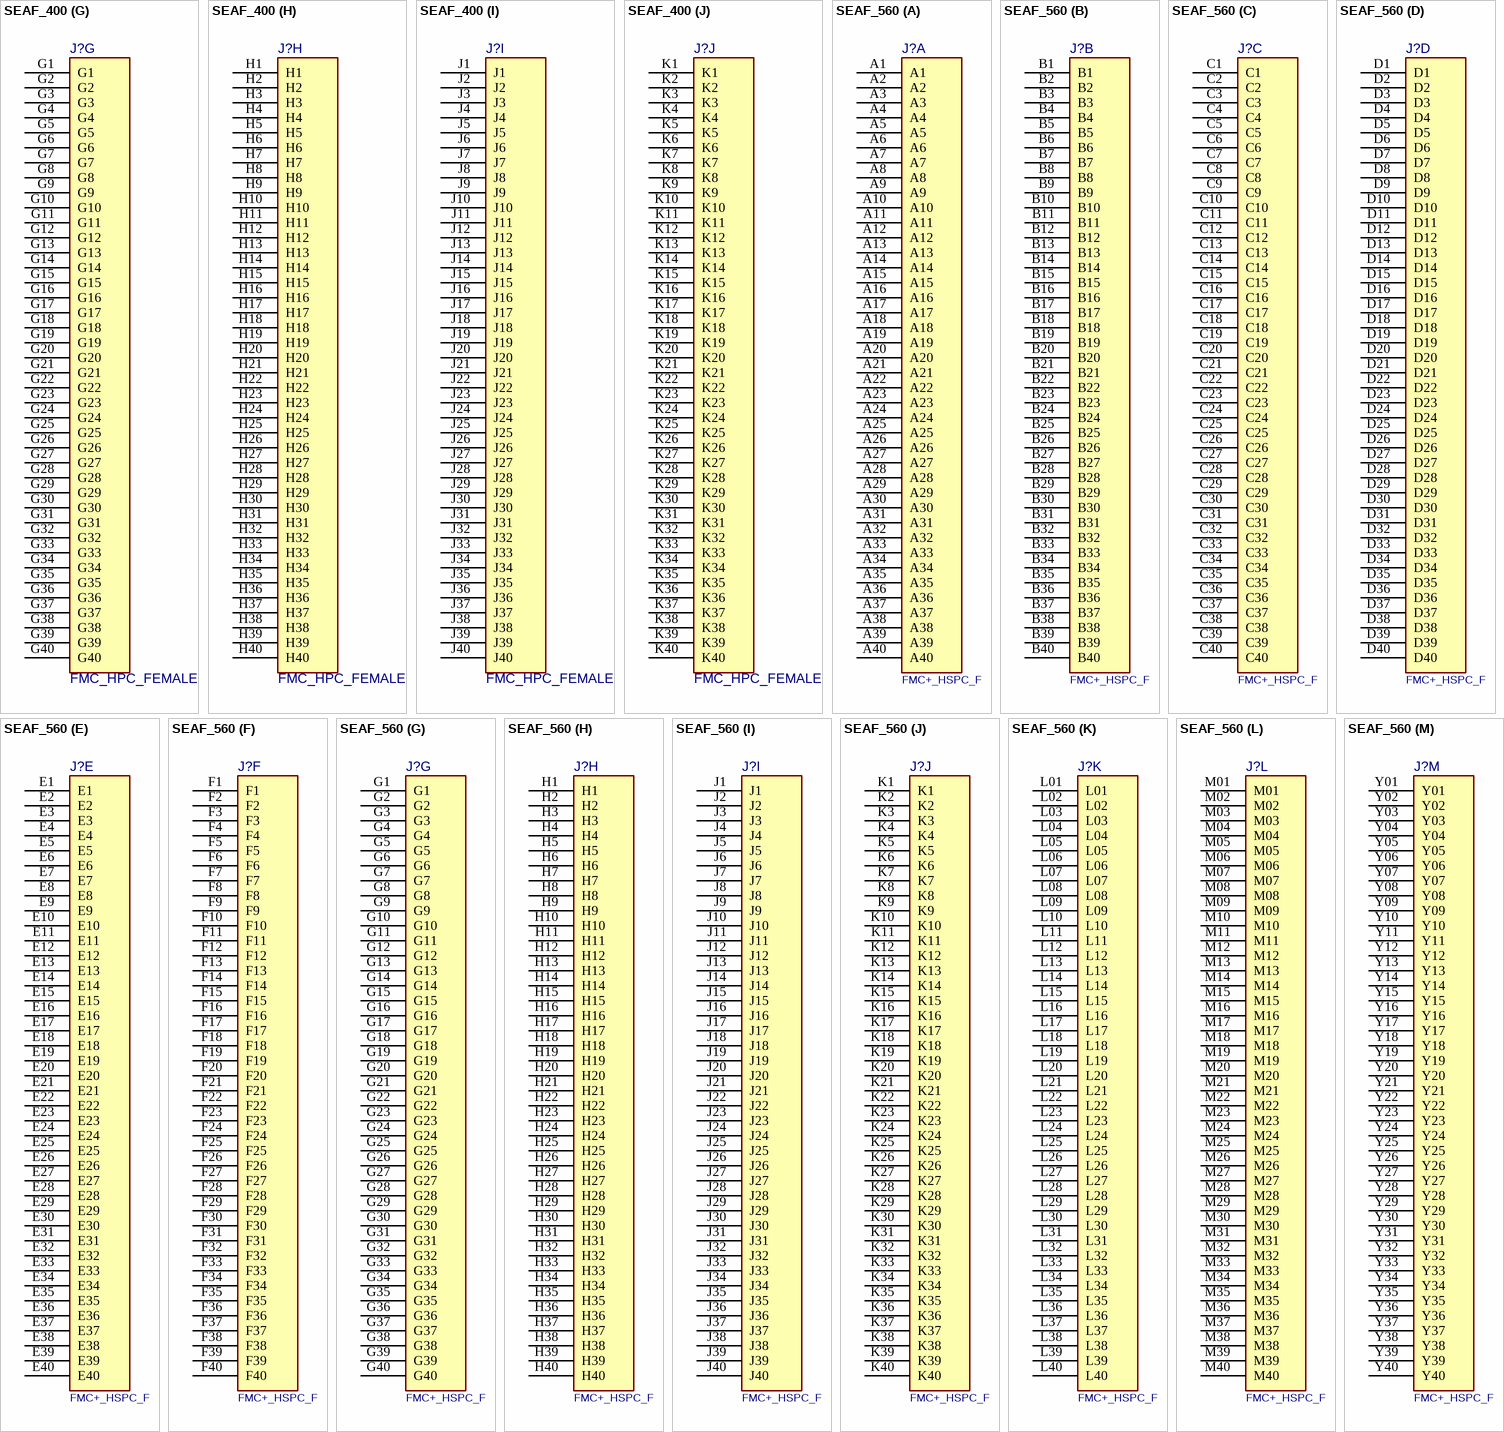
[diagram p16: symbols SEAF_400 to SEAF_560]

## SEAF_400
designator J?, comment FMC_HPC_FEMALE
CONN, FMC, HPC, 400PIN, FEMALE for Carrier; DESC: ASP-134486 for female / ASP-134488 for male; MANF: SAMTEC, MOLEX; MANF_P#: ASP-134486-01; PARAM: Module; VALUE: FMC_HPC_FEMALE
footprint SEAF (FMC Carrier(FPGA mezzanine Card) HPC female, ASP-134486)
part A pins: A1, A2, A3, A4, A5, A6, A7, A8, A9, A10, A11, A12, A13, A14, A15, A16, A17, A18, A19, A20, A21, A22, A23, A24, A25, A26, A27, A28, A29, A30, A31, A32, A33, A34, A35, A36, A37, A38, A39, A40
part B pins: B1, B2, B3, B4, B5, B6, B7, B8, B9, B10, B11, B12, B13, B14, B15, B16, B17, B18, B19, B20, B21, B22, B23, B24, B25, B26, B27, B28, B29, B30, B31, B32, B33, B34, B35, B36, B37, B38, B39, B40
part C pins: C1, C2, C3, C4, C5, C6, C7, C8, C9, C10, C11, C12, C13, C14, C15, C16, C17, C18, C19, C20, C21, C22, C23, C24, C25, C26, C27, C28, C29, C30, C31, C32, C33, C34, C35, C36, C37, C38, C39, C40
part D pins: D1, D2, D3, D4, D5, D6, D7, D8, D9, D10, D11, D12, D13, D14, D15, D16, D17, D18, D19, D20, D21, D22, D23, D24, D25, D26, D27, D28, D29, D30, D31, D32, D33, D34, D35, D36, D37, D38, D39, D40
part E pins: E1, E2, E3, E4, E5, E6, E7, E8, E9, E10, E11, E12, E13, E14, E15, E16, E17, E18, E19, E20, E21, E22, E23, E24, E25, E26, E27, E28, E29, E30, E31, E32, E33, E34, E35, E36, E37, E38, E39, E40
part F pins: F1, F2, F3, F4, F5, F6, F7, F8, F9, F10, F11, F12, F13, F14, F15, F16, F17, F18, F19, F20, F21, F22, F23, F24, F25, F26, F27, F28, F29, F30, F31, F32, F33, F34, F35, F36, F37, F38, F39, F40
part G pins: G1, G2, G3, G4, G5, G6, G7, G8, G9, G10, G11, G12, G13, G14, G15, G16, G17, G18, G19, G20, G21, G22, G23, G24, G25, G26, G27, G28, G29, G30, G31, G32, G33, G34, G35, G36, G37, G38, G39, G40
part H pins: H1, H2, H3, H4, H5, H6, H7, H8, H9, H10, H11, H12, H13, H14, H15, H16, H17, H18, H19, H20, H21, H22, H23, H24, H25, H26, H27, H28, H29, H30, H31, H32, H33, H34, H35, H36, H37, H38, H39, H40
part I pins: J1, J2, J3, J4, J5, J6, J7, J8, J9, J10, J11, J12, J13, J14, J15, J16, J17, J18, J19, J20, J21, J22, J23, J24, J25, J26, J27, J28, J29, J30, J31, J32, J33, J34, J35, J36, J37, J38, J39, J40
part J pins: K1, K2, K3, K4, K5, K6, K7, K8, K9, K10, K11, K12, K13, K14, K15, K16, K17, K18, K19, K20, K21, K22, K23, K24, K25, K26, K27, K28, K29, K30, K31, K32, K33, K34, K35, K36, K37, K38, K39, K40

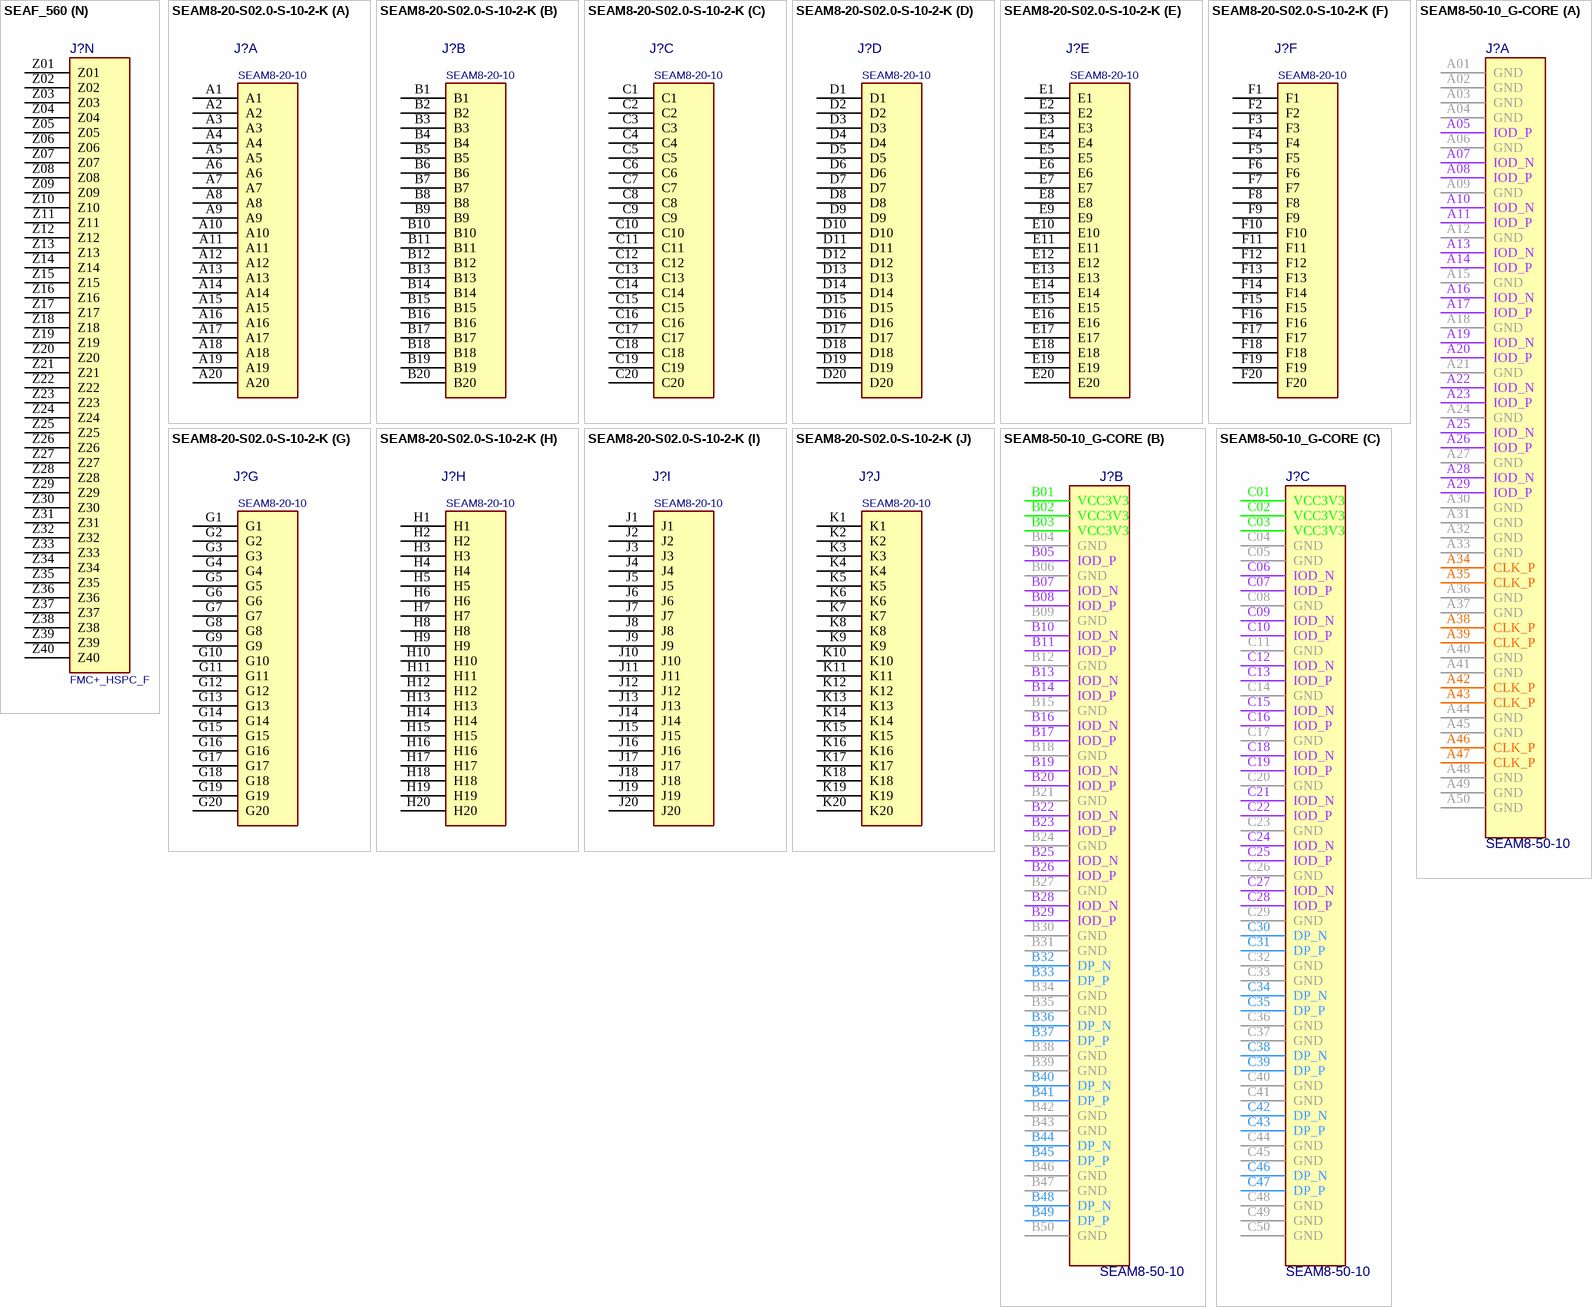
[diagram p17: symbols SEAF_560 to SEAM8-50-10_G-CORE]

## SEAF_560
designator J?, comment FMC+_HSPC_F
CONN, FMC+, HSPC, 560PIN, FEMALE for Module; DESC: ASP-134486 for female / ASP-134488 for male; MANF: SAMTEC, MOLEX; MANF_P#: ASP-184329-01; PARAM: Module; VALUE: FMC+_HSPC_F
footprint SEAF_PLUS (FMC+ Carrier HSPC female, asp-184329)
part A pins: A1, A2, A3, A4, A5, A6, A7, A8, A9, A10, A11, A12, A13, A14, A15, A16, A17, A18, A19, A20, A21, A22, A23, A24, A25, A26, A27, A28, A29, A30, A31, A32, A33, A34, A35, A36, A37, A38, A39, A40
part B pins: B1, B2, B3, B4, B5, B6, B7, B8, B9, B10, B11, B12, B13, B14, B15, B16, B17, B18, B19, B20, B21, B22, B23, B24, B25, B26, B27, B28, B29, B30, B31, B32, B33, B34, B35, B36, B37, B38, B39, B40
part C pins: C1, C2, C3, C4, C5, C6, C7, C8, C9, C10, C11, C12, C13, C14, C15, C16, C17, C18, C19, C20, C21, C22, C23, C24, C25, C26, C27, C28, C29, C30, C31, C32, C33, C34, C35, C36, C37, C38, C39, C40
part D pins: D1, D2, D3, D4, D5, D6, D7, D8, D9, D10, D11, D12, D13, D14, D15, D16, D17, D18, D19, D20, D21, D22, D23, D24, D25, D26, D27, D28, D29, D30, D31, D32, D33, D34, D35, D36, D37, D38, D39, D40
part E pins: E1, E2, E3, E4, E5, E6, E7, E8, E9, E10, E11, E12, E13, E14, E15, E16, E17, E18, E19, E20, E21, E22, E23, E24, E25, E26, E27, E28, E29, E30, E31, E32, E33, E34, E35, E36, E37, E38, E39, E40
part F pins: F1, F2, F3, F4, F5, F6, F7, F8, F9, F10, F11, F12, F13, F14, F15, F16, F17, F18, F19, F20, F21, F22, F23, F24, F25, F26, F27, F28, F29, F30, F31, F32, F33, F34, F35, F36, F37, F38, F39, F40
part G pins: G1, G2, G3, G4, G5, G6, G7, G8, G9, G10, G11, G12, G13, G14, G15, G16, G17, G18, G19, G20, G21, G22, G23, G24, G25, G26, G27, G28, G29, G30, G31, G32, G33, G34, G35, G36, G37, G38, G39, G40
part H pins: H1, H2, H3, H4, H5, H6, H7, H8, H9, H10, H11, H12, H13, H14, H15, H16, H17, H18, H19, H20, H21, H22, H23, H24, H25, H26, H27, H28, H29, H30, H31, H32, H33, H34, H35, H36, H37, H38, H39, H40
part I pins: J1, J2, J3, J4, J5, J6, J7, J8, J9, J10, J11, J12, J13, J14, J15, J16, J17, J18, J19, J20, J21, J22, J23, J24, J25, J26, J27, J28, J29, J30, J31, J32, J33, J34, J35, J36, J37, J38, J39, J40
part J pins: K1, K2, K3, K4, K5, K6, K7, K8, K9, K10, K11, K12, K13, K14, K15, K16, K17, K18, K19, K20, K21, K22, K23, K24, K25, K26, K27, K28, K29, K30, K31, K32, K33, K34, K35, K36, K37, K38, K39, K40
part K pins: L01, L02, L03, L04, L05, L06, L07, L08, L09, L10, L11, L12, L13, L14, L15, L16, L17, L18, L19, L20, L21, L22, L23, L24, L25, L26, L27, L28, L29, L30, L31, L32, L33, L34, L35, L36, L37, L38, L39, L40
part L pins: M01, M02, M03, M04, M05, M06, M07, M08, M09, M10, M11, M12, M13, M14, M15, M16, M17, M18, M19, M20, M21, M22, M23, M24, M25, M26, M27, M28, M29, M30, M31, M32, M33, M34, M35, M36, M37, M38, M39, M40
part M pins: Y01, Y02, Y03, Y04, Y05, Y06, Y07, Y08, Y09, Y10, Y11, Y12, Y13, Y14, Y15, Y16, Y17, Y18, Y19, Y20, Y21, Y22, Y23, Y24, Y25, Y26, Y27, Y28, Y29, Y30, Y31, Y32, Y33, Y34, Y35, Y36, Y37, Y38, Y39, Y40
part N pins: Z01, Z02, Z03, Z04, Z05, Z06, Z07, Z08, Z09, Z10, Z11, Z12, Z13, Z14, Z15, Z16, Z17, Z18, Z19, Z20, Z21, Z22, Z23, Z24, Z25, Z26, Z27, Z28, Z29, Z30, Z31, Z32, Z33, Z34, Z35, Z36, Z37, Z38, Z39, Z40

## SEAM8-20-S02.0-S-10-2-K
designator J?, comment SEAM8-20-10
Samtec 0.80 mm SEARAY™ High-Speed High-Density; MANF_P#: SEAM8-20-S02.0-S-10-2-K; PARAM2: 20columns X 10rows; PARAM: Up-to12Gbps, pitch0.8mm Array; MANF: SAMTEC; VALUE: SEAM8-20-10
footprint SEAM8_20_S_10 (CONN, B2B, SAMTEC, SEAM8-20-S02.0-S-10-2-K)
part A pins: A1, A2, A3, A4, A5, A6, A7, A8, A9, A10, A11, A12, A13, A14, A15, A16, A17, A18, A19, A20
part B pins: B1, B2, B3, B4, B5, B6, B7, B8, B9, B10, B11, B12, B13, B14, B15, B16, B17, B18, B19, B20
part C pins: C1, C2, C3, C4, C5, C6, C7, C8, C9, C10, C11, C12, C13, C14, C15, C16, C17, C18, C19, C20
part D pins: D1, D2, D3, D4, D5, D6, D7, D8, D9, D10, D11, D12, D13, D14, D15, D16, D17, D18, D19, D20
part E pins: E1, E2, E3, E4, E5, E6, E7, E8, E9, E10, E11, E12, E13, E14, E15, E16, E17, E18, E19, E20
part F pins: F1, F2, F3, F4, F5, F6, F7, F8, F9, F10, F11, F12, F13, F14, F15, F16, F17, F18, F19, F20
part G pins: G1, G2, G3, G4, G5, G6, G7, G8, G9, G10, G11, G12, G13, G14, G15, G16, G17, G18, G19, G20
part H pins: H1, H2, H3, H4, H5, H6, H7, H8, H9, H10, H11, H12, H13, H14, H15, H16, H17, H18, H19, H20
part I pins: J1, J2, J3, J4, J5, J6, J7, J8, J9, J10, J11, J12, J13, J14, J15, J16, J17, J18, J19, J20
part J pins: K1, K2, K3, K4, K5, K6, K7, K8, K9, K10, K11, K12, K13, K14, K15, K16, K17, K18, K19, K20

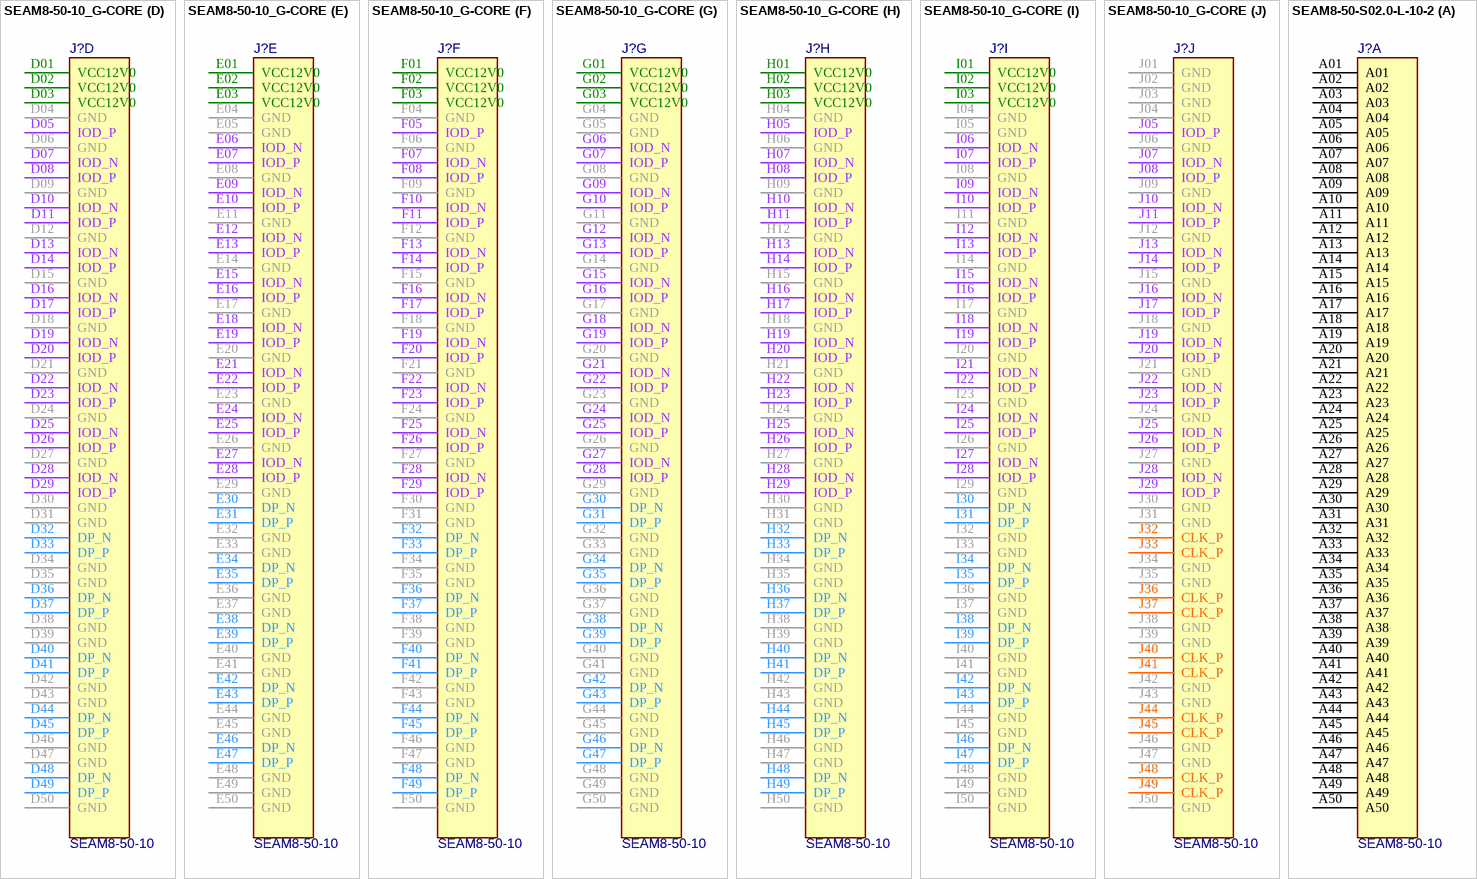
[diagram p18: symbols SEAM8-50-10_G-CORE to SEAM8-50-S02.0-L-10-2]

## SEAM8-50-10_G-CORE
designator J?, comment SEAM8-50-10
0.80 mm SEARAY High-Speed High-Density Open-Pin-Field Array Socket; MANF: SAMTEC; MANF_P#: SEAM8-50-S02.0-L-10-2; PARAM2: 20columns X 10rows; PARAM: Up-to12Gbps, pitch0.8mm Array; Value: SEAM8-50-10
footprint SEAM8_50_10_H5 (CONN, B2B, SAMTEC, SEAM8-50-S02.0-L-10-2)
part A pins: A01 GND, A02 GND, A03 GND, A04 GND, A05 IOD_P, A06 GND, A07 IOD_N, A08 IOD_P, A09 GND, A10 IOD_N, A11 IOD_P, A12 GND, A13 IOD_N, A14 IOD_P, A15 GND, A16 IOD_N, A17 IOD_P, A18 GND, A19 IOD_N, A20 IOD_P, A21 GND, A22 IOD_N, A23 IOD_P, A24 GND, A25 IOD_N, A26 IOD_P, A27 GND, A28 IOD_N, A29 IOD_P, A30 GND, A31 GND, A32 GND, A33 GND, A34 CLK_P, A35 CLK_P, A36 GND, A37 GND, A38 CLK_P, A39 CLK_P, A40 GND, A41 GND, A42 CLK_P, A43 CLK_P, A44 GND, A45 GND, A46 CLK_P, A47 CLK_P, A48 GND, A49 GND, A50 GND
part B pins: B01 VCC3V3, B02 VCC3V3, B03 VCC3V3, B04 GND, B05 IOD_P, B06 GND, B07 IOD_N, B08 IOD_P, B09 GND, B10 IOD_N, B11 IOD_P, B12 GND, B13 IOD_N, B14 IOD_P, B15 GND, B16 IOD_N, B17 IOD_P, B18 GND, B19 IOD_N, B20 IOD_P, B21 GND, B22 IOD_N, B23 IOD_P, B24 GND, B25 IOD_N, B26 IOD_P, B27 GND, B28 IOD_N, B29 IOD_P, B30 GND, B31 GND, B32 DP_N, B33 DP_P, B34 GND, B35 GND, B36 DP_N, B37 DP_P, B38 GND, B39 GND, B40 DP_N, B41 DP_P, B42 GND, B43 GND, B44 DP_N, B45 DP_P, B46 GND, B47 GND, B48 DP_N, B49 DP_P, B50 GND
part C pins: C01 VCC3V3, C02 VCC3V3, C03 VCC3V3, C04 GND, C05 GND, C06 IOD_N, C07 IOD_P, C08 GND, C09 IOD_N, C10 IOD_P, C11 GND, C12 IOD_N, C13 IOD_P, C14 GND, C15 IOD_N, C16 IOD_P, C17 GND, C18 IOD_N, C19 IOD_P, C20 GND, C21 IOD_N, C22 IOD_P, C23 GND, C24 IOD_N, C25 IOD_P, C26 GND, C27 IOD_N, C28 IOD_P, C29 GND, C30 DP_N, C31 DP_P, C32 GND, C33 GND, C34 DP_N, C35 DP_P, C36 GND, C37 GND, C38 DP_N, C39 DP_P, C40 GND, C41 GND, C42 DP_N, C43 DP_P, C44 GND, C45 GND, C46 DP_N, C47 DP_P, C48 GND, C49 GND, C50 GND
part D pins: D01 VCC12V0, D02 VCC12V0, D03 VCC12V0, D04 GND, D05 IOD_P, D06 GND, D07 IOD_N, D08 IOD_P, D09 GND, D10 IOD_N, D11 IOD_P, D12 GND, D13 IOD_N, D14 IOD_P, D15 GND, D16 IOD_N, D17 IOD_P, D18 GND, D19 IOD_N, D20 IOD_P, D21 GND, D22 IOD_N, D23 IOD_P, D24 GND, D25 IOD_N, D26 IOD_P, D27 GND, D28 IOD_N, D29 IOD_P, D30 GND, D31 GND, D32 DP_N, D33 DP_P, D34 GND, D35 GND, D36 DP_N, D37 DP_P, D38 GND, D39 GND, D40 DP_N, D41 DP_P, D42 GND, D43 GND, D44 DP_N, D45 DP_P, D46 GND, D47 GND, D48 DP_N, D49 DP_P, D50 GND
part E pins: E01 VCC12V0, E02 VCC12V0, E03 VCC12V0, E04 GND, E05 GND, E06 IOD_N, E07 IOD_P, E08 GND, E09 IOD_N, E10 IOD_P, E11 GND, E12 IOD_N, E13 IOD_P, E14 GND, E15 IOD_N, E16 IOD_P, E17 GND, E18 IOD_N, E19 IOD_P, E20 GND, E21 IOD_N, E22 IOD_P, E23 GND, E24 IOD_N, E25 IOD_P, E26 GND, E27 IOD_N, E28 IOD_P, E29 GND, E30 DP_N, E31 DP_P, E32 GND, E33 GND, E34 DP_N, E35 DP_P, E36 GND, E37 GND, E38 DP_N, E39 DP_P, E40 GND, E41 GND, E42 DP_N, E43 DP_P, E44 GND, E45 GND, E46 DP_N, E47 DP_P, E48 GND, E49 GND, E50 GND
part F pins: F01 VCC12V0, F02 VCC12V0, F03 VCC12V0, F04 GND, F05 IOD_P, F06 GND, F07 IOD_N, F08 IOD_P, F09 GND, F10 IOD_N, F11 IOD_P, F12 GND, F13 IOD_N, F14 IOD_P, F15 GND, F16 IOD_N, F17 IOD_P, F18 GND, F19 IOD_N, F20 IOD_P, F21 GND, F22 IOD_N, F23 IOD_P, F24 GND, F25 IOD_N, F26 IOD_P, F27 GND, F28 IOD_N, F29 IOD_P, F30 GND, F31 GND, F32 DP_N, F33 DP_P, F34 GND, F35 GND, F36 DP_N, F37 DP_P, F38 GND, F39 GND, F40 DP_N, F41 DP_P, F42 GND, F43 GND, F44 DP_N, F45 DP_P, F46 GND, F47 GND, F48 DP_N, F49 DP_P, F50 GND
part G pins: G01 VCC12V0, G02 VCC12V0, G03 VCC12V0, G04 GND, G05 GND, G06 IOD_N, G07 IOD_P, G08 GND, G09 IOD_N, G10 IOD_P, G11 GND, G12 IOD_N, G13 IOD_P, G14 GND, G15 IOD_N, G16 IOD_P, G17 GND, G18 IOD_N, G19 IOD_P, G20 GND, G21 IOD_N, G22 IOD_P, G23 GND, G24 IOD_N, G25 IOD_P, G26 GND, G27 IOD_N, G28 IOD_P, G29 GND, G30 DP_N, G31 DP_P, G32 GND, G33 GND, G34 DP_N, G35 DP_P, G36 GND, G37 GND, G38 DP_N, G39 DP_P, G40 GND, G41 GND, G42 DP_N, G43 DP_P, G44 GND, G45 GND, G46 DP_N, G47 DP_P, G48 GND, G49 GND, G50 GND
part H pins: H01 VCC12V0, H02 VCC12V0, H03 VCC12V0, H04 GND, H05 IOD_P, H06 GND, H07 IOD_N, H08 IOD_P, H09 GND, H10 IOD_N, H11 IOD_P, H12 GND, H13 IOD_N, H14 IOD_P, H15 GND, H16 IOD_N, H17 IOD_P, H18 GND, H19 IOD_N, H20 IOD_P, H21 GND, H22 IOD_N, H23 IOD_P, H24 GND, H25 IOD_N, H26 IOD_P, H27 GND, H28 IOD_N, H29 IOD_P, H30 GND, H31 GND, H32 DP_N, H33 DP_P, H34 GND, H35 GND, H36 DP_N, H37 DP_P, H38 GND, H39 GND, H40 DP_N, H41 DP_P, H42 GND, H43 GND, H44 DP_N, H45 DP_P, H46 GND, H47 GND, H48 DP_N, H49 DP_P, H50 GND
part I pins: I01 VCC12V0, I02 VCC12V0, I03 VCC12V0, I04 GND, I05 GND, I06 IOD_N, I07 IOD_P, I08 GND, I09 IOD_N, I10 IOD_P, I11 GND, I12 IOD_N, I13 IOD_P, I14 GND, I15 IOD_N, I16 IOD_P, I17 GND, I18 IOD_N, I19 IOD_P, I20 GND, I21 IOD_N, I22 IOD_P, I23 GND, I24 IOD_N, I25 IOD_P, I26 GND, I27 IOD_N, I28 IOD_P, I29 GND, I30 DP_N, I31 DP_P, I32 GND, I33 GND, I34 DP_N, I35 DP_P, I36 GND, I37 GND, I38 DP_N, I39 DP_P, I40 GND, I41 GND, I42 DP_N, I43 DP_P, I44 GND, I45 GND, I46 DP_N, I47 DP_P, I48 GND, I49 GND, I50 GND
part J pins: J01 GND, J02 GND, J03 GND, J04 GND, J05 IOD_P, J06 GND, J07 IOD_N, J08 IOD_P, J09 GND, J10 IOD_N, J11 IOD_P, J12 GND, J13 IOD_N, J14 IOD_P, J15 GND, J16 IOD_N, J17 IOD_P, J18 GND, J19 IOD_N, J20 IOD_P, J21 GND, J22 IOD_N, J23 IOD_P, J24 GND, J25 IOD_N, J26 IOD_P, J27 GND, J28 IOD_N, J29 IOD_P, J30 GND, J31 GND, J32 CLK_P, J33 CLK_P, J34 GND, J35 GND, J36 CLK_P, J37 CLK_P, J38 GND, J39 GND, J40 CLK_P, J41 CLK_P, J42 GND, J43 GND, J44 CLK_P, J45 CLK_P, J46 GND, J47 GND, J48 CLK_P, J49 CLK_P, J50 GND

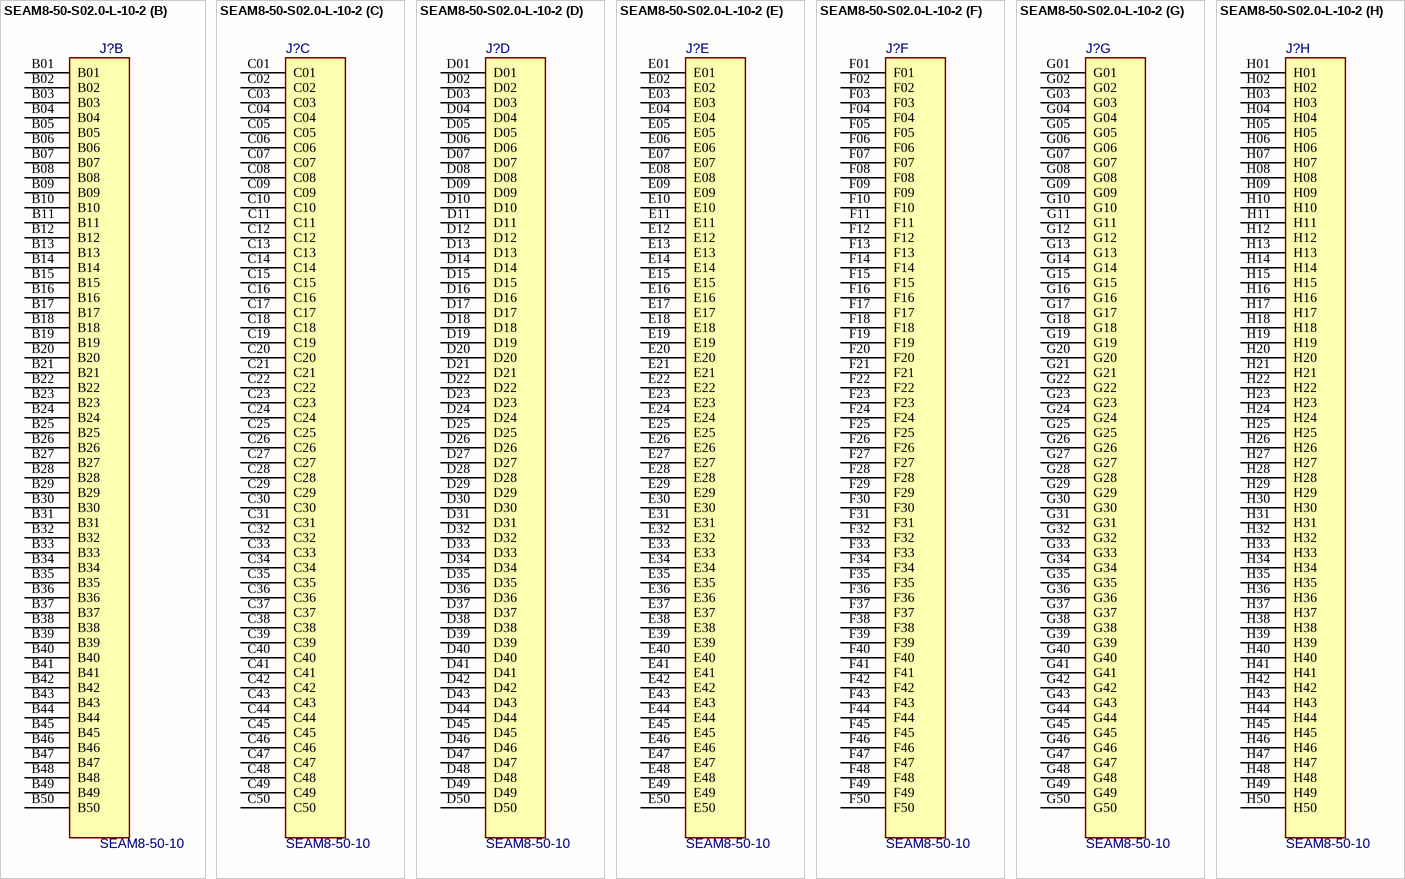
[diagram p19: symbol SEAM8-50-S02.0-L-10-2]

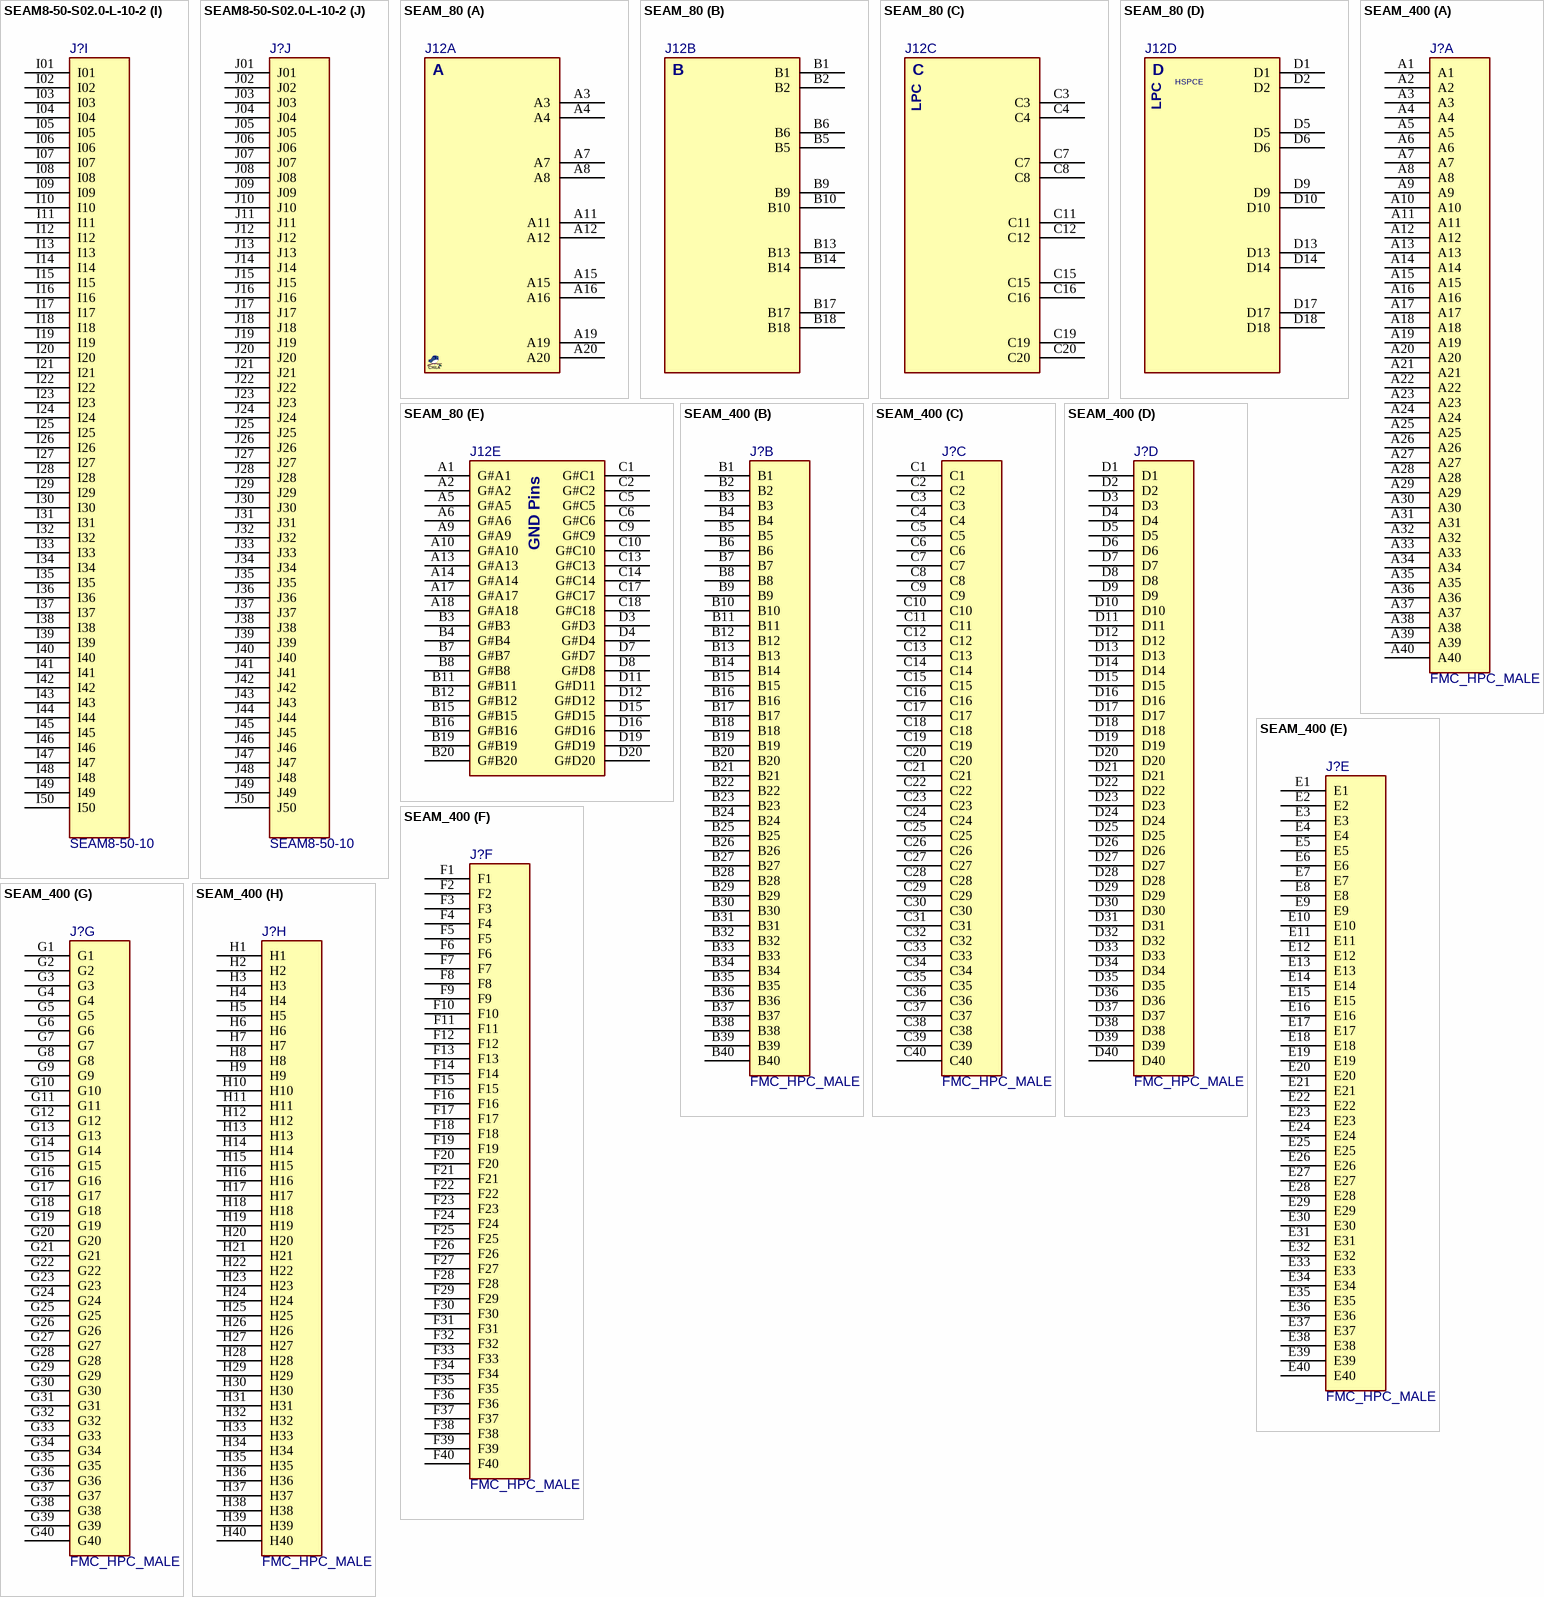
[diagram p20: symbols SEAM8-50-S02.0-L-10-2 to SEAM_400]

## SEAM8-50-S02.0-L-10-2
designator J?, comment SEAM8-50-10
0.80 mm SEARAY High-Speed High-Density Open-Pin-Field Array Socket; MANF: SAMTEC; MANF_P#: SEAM8-50-S02.0-L-10-2; PARAM2: 20columns X 10rows; PARAM: Up-to12Gbps, pitch0.8mm Array; Value: SEAM8-50-10
footprint SEAM8_50_10_H5 (CONN, B2B, SAMTEC, SEAM8-50-S02.0-L-10-2)
part A pins: A01, A02, A03, A04, A05, A06, A07, A08, A09, A10, A11, A12, A13, A14, A15, A16, A17, A18, A19, A20, A21, A22, A23, A24, A25, A26, A27, A28, A29, A30, A31, A32, A33, A34, A35, A36, A37, A38, A39, A40, A41, A42, A43, A44, A45, A46, A47, A48, A49, A50
part B pins: B01, B02, B03, B04, B05, B06, B07, B08, B09, B10, B11, B12, B13, B14, B15, B16, B17, B18, B19, B20, B21, B22, B23, B24, B25, B26, B27, B28, B29, B30, B31, B32, B33, B34, B35, B36, B37, B38, B39, B40, B41, B42, B43, B44, B45, B46, B47, B48, B49, B50
part C pins: C01, C02, C03, C04, C05, C06, C07, C08, C09, C10, C11, C12, C13, C14, C15, C16, C17, C18, C19, C20, C21, C22, C23, C24, C25, C26, C27, C28, C29, C30, C31, C32, C33, C34, C35, C36, C37, C38, C39, C40, C41, C42, C43, C44, C45, C46, C47, C48, C49, C50
part D pins: D01, D02, D03, D04, D05, D06, D07, D08, D09, D10, D11, D12, D13, D14, D15, D16, D17, D18, D19, D20, D21, D22, D23, D24, D25, D26, D27, D28, D29, D30, D31, D32, D33, D34, D35, D36, D37, D38, D39, D40, D41, D42, D43, D44, D45, D46, D47, D48, D49, D50
part E pins: E01, E02, E03, E04, E05, E06, E07, E08, E09, E10, E11, E12, E13, E14, E15, E16, E17, E18, E19, E20, E21, E22, E23, E24, E25, E26, E27, E28, E29, E30, E31, E32, E33, E34, E35, E36, E37, E38, E39, E40, E41, E42, E43, E44, E45, E46, E47, E48, E49, E50
part F pins: F01, F02, F03, F04, F05, F06, F07, F08, F09, F10, F11, F12, F13, F14, F15, F16, F17, F18, F19, F20, F21, F22, F23, F24, F25, F26, F27, F28, F29, F30, F31, F32, F33, F34, F35, F36, F37, F38, F39, F40, F41, F42, F43, F44, F45, F46, F47, F48, F49, F50
part G pins: G01, G02, G03, G04, G05, G06, G07, G08, G09, G10, G11, G12, G13, G14, G15, G16, G17, G18, G19, G20, G21, G22, G23, G24, G25, G26, G27, G28, G29, G30, G31, G32, G33, G34, G35, G36, G37, G38, G39, G40, G41, G42, G43, G44, G45, G46, G47, G48, G49, G50
part H pins: H01, H02, H03, H04, H05, H06, H07, H08, H09, H10, H11, H12, H13, H14, H15, H16, H17, H18, H19, H20, H21, H22, H23, H24, H25, H26, H27, H28, H29, H30, H31, H32, H33, H34, H35, H36, H37, H38, H39, H40, H41, H42, H43, H44, H45, H46, H47, H48, H49, H50
part I pins: I01, I02, I03, I04, I05, I06, I07, I08, I09, I10, I11, I12, I13, I14, I15, I16, I17, I18, I19, I20, I21, I22, I23, I24, I25, I26, I27, I28, I29, I30, I31, I32, I33, I34, I35, I36, I37, I38, I39, I40, I41, I42, I43, I44, I45, I46, I47, I48, I49, I50
part J pins: J01, J02, J03, J04, J05, J06, J07, J08, J09, J10, J11, J12, J13, J14, J15, J16, J17, J18, J19, J20, J21, J22, J23, J24, J25, J26, J27, J28, J29, J30, J31, J32, J33, J34, J35, J36, J37, J38, J39, J40, J41, J42, J43, J44, J45, J46, J47, J48, J49, J50

## SEAM_80
designator J12, comment FMC+_HSPC_M  (value not drawn)
CONN, FMC+ HSPCe, 80PIN, MALE for Module; DESC: ASP-186900-01 for module/ ASP-186899-01 for carrier; MANF: SAMTEC; MANF_P#: ASP-186900-01; PARAM: FMC+ HSPCe, 80PIN, Module; PRICE: 11$; VALUE: FMC+_HSPC_M
footprint FMCP_HSPCE_M (FMC+ Module HSPCe male, ASP-186900)
part A pins: A3, A4, A7, A8, A11, A12, A15, A16, A19, A20
part B pins: B1, B2, B5, B6, B9, B10, B13, B14, B17, B18
part C pins: C3, C4, C7, C8, C11, C12, C15, C16, C19, C20
part D pins: D1, D2, D5, D6, D9, D10, D13, D14, D17, D18
part E pins: A1 G#A1, A2 G#A2, A5 G#A5, A6 G#A6, A9 G#A9, A10 G#A10, A13 G#A13, A14 G#A14, A17 G#A17, A18 G#A18, B3 G#B3, B4 G#B4, B7 G#B7, B8 G#B8, B11 G#B11, B12 G#B12, B15 G#B15, B16 G#B16, B19 G#B19, B20 G#B20, C1 G#C1, C2 G#C2, C5 G#C5, C6 G#C6, C9 G#C9, C10 G#C10, C13 G#C13, C14 G#C14, C17 G#C17, C18 G#C18, D3 G#D3, D4 G#D4, D7 G#D7, D8 G#D8, D11 G#D11, D12 G#D12, D15 G#D15, D16 G#D16, D19 G#D19, D20 G#D20
part A text: A
part B text: B
part C text: C; LPC
part D text: D; HSPCE; LPC
part E text: GND Pins

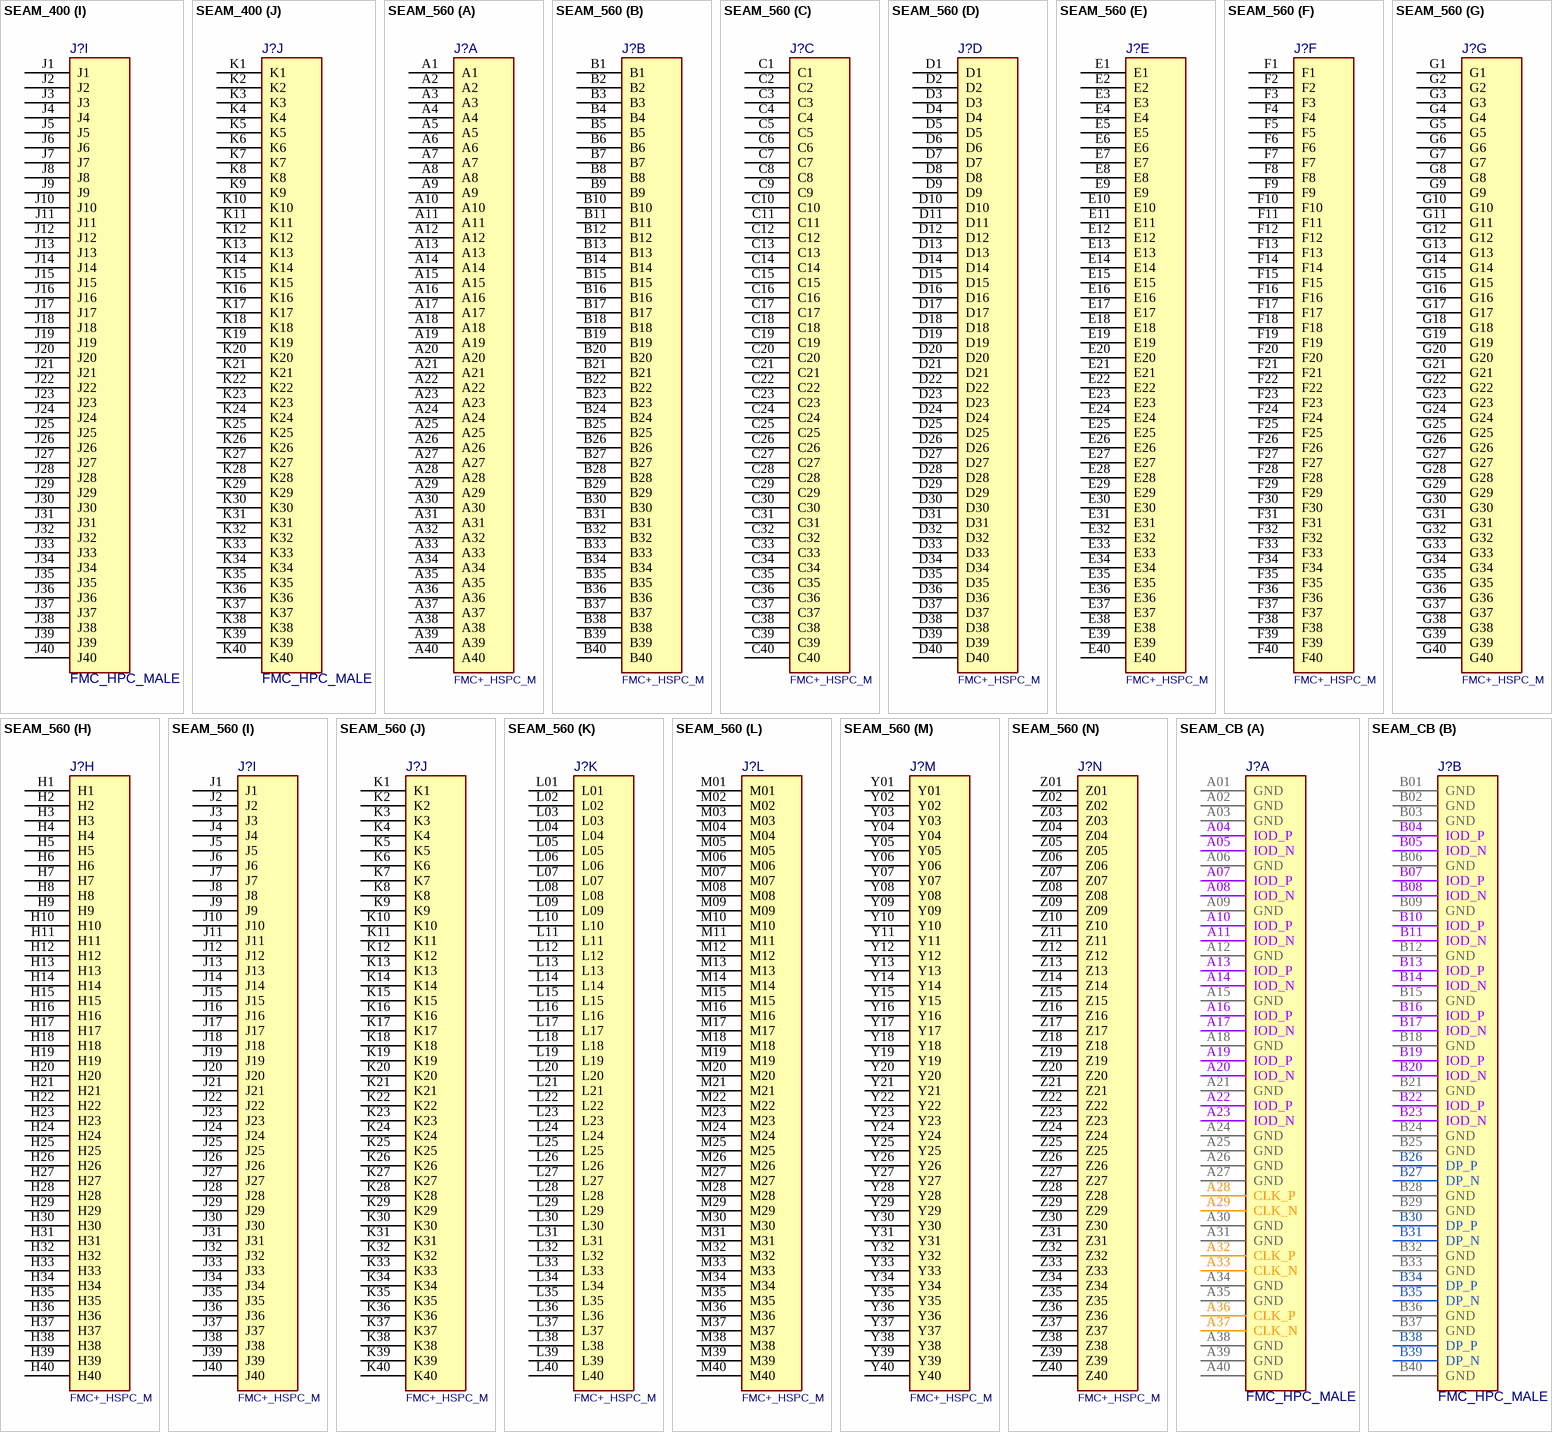
[diagram p21: symbols SEAM_400 to SEAM_CB]

## SEAM_400
designator J?, comment FMC_HPC_MALE
CONN, FMC, HPC, 400PIN, MALE for Module; DESC: ASP-134486 for female / ASP-134488 for male; MANF: SAMTEC, MOLEX; MANF_P#: ASP-134488-01; PARAM: Module; VALUE: FMC_HPC_MALE
footprint SEAM (FMC Module(FPGA mezzanine Card) HPC male, ASP-134488)
part A pins: A1, A2, A3, A4, A5, A6, A7, A8, A9, A10, A11, A12, A13, A14, A15, A16, A17, A18, A19, A20, A21, A22, A23, A24, A25, A26, A27, A28, A29, A30, A31, A32, A33, A34, A35, A36, A37, A38, A39, A40
part B pins: B1, B2, B3, B4, B5, B6, B7, B8, B9, B10, B11, B12, B13, B14, B15, B16, B17, B18, B19, B20, B21, B22, B23, B24, B25, B26, B27, B28, B29, B30, B31, B32, B33, B34, B35, B36, B37, B38, B39, B40
part C pins: C1, C2, C3, C4, C5, C6, C7, C8, C9, C10, C11, C12, C13, C14, C15, C16, C17, C18, C19, C20, C21, C22, C23, C24, C25, C26, C27, C28, C29, C30, C31, C32, C33, C34, C35, C36, C37, C38, C39, C40
part D pins: D1, D2, D3, D4, D5, D6, D7, D8, D9, D10, D11, D12, D13, D14, D15, D16, D17, D18, D19, D20, D21, D22, D23, D24, D25, D26, D27, D28, D29, D30, D31, D32, D33, D34, D35, D36, D37, D38, D39, D40
part E pins: E1, E2, E3, E4, E5, E6, E7, E8, E9, E10, E11, E12, E13, E14, E15, E16, E17, E18, E19, E20, E21, E22, E23, E24, E25, E26, E27, E28, E29, E30, E31, E32, E33, E34, E35, E36, E37, E38, E39, E40
part F pins: F1, F2, F3, F4, F5, F6, F7, F8, F9, F10, F11, F12, F13, F14, F15, F16, F17, F18, F19, F20, F21, F22, F23, F24, F25, F26, F27, F28, F29, F30, F31, F32, F33, F34, F35, F36, F37, F38, F39, F40
part G pins: G1, G2, G3, G4, G5, G6, G7, G8, G9, G10, G11, G12, G13, G14, G15, G16, G17, G18, G19, G20, G21, G22, G23, G24, G25, G26, G27, G28, G29, G30, G31, G32, G33, G34, G35, G36, G37, G38, G39, G40
part H pins: H1, H2, H3, H4, H5, H6, H7, H8, H9, H10, H11, H12, H13, H14, H15, H16, H17, H18, H19, H20, H21, H22, H23, H24, H25, H26, H27, H28, H29, H30, H31, H32, H33, H34, H35, H36, H37, H38, H39, H40
part I pins: J1, J2, J3, J4, J5, J6, J7, J8, J9, J10, J11, J12, J13, J14, J15, J16, J17, J18, J19, J20, J21, J22, J23, J24, J25, J26, J27, J28, J29, J30, J31, J32, J33, J34, J35, J36, J37, J38, J39, J40
part J pins: K1, K2, K3, K4, K5, K6, K7, K8, K9, K10, K11, K12, K13, K14, K15, K16, K17, K18, K19, K20, K21, K22, K23, K24, K25, K26, K27, K28, K29, K30, K31, K32, K33, K34, K35, K36, K37, K38, K39, K40

## SEAM_560
designator J?, comment FMC+_HSPC_M
CONN, FMC+, HSPC, 560PIN, MALE for Module; DESC: ASP-134486 for female / ASP-134488 for male; MANF: SAMTEC, MOLEX; MANF_P#: ASP-184330-01; PARAM: Module; VALUE: FMC+_HSPC_M
footprint SEAM_PLUS (FMC+ male, asp-184330)
part A pins: A1, A2, A3, A4, A5, A6, A7, A8, A9, A10, A11, A12, A13, A14, A15, A16, A17, A18, A19, A20, A21, A22, A23, A24, A25, A26, A27, A28, A29, A30, A31, A32, A33, A34, A35, A36, A37, A38, A39, A40
part B pins: B1, B2, B3, B4, B5, B6, B7, B8, B9, B10, B11, B12, B13, B14, B15, B16, B17, B18, B19, B20, B21, B22, B23, B24, B25, B26, B27, B28, B29, B30, B31, B32, B33, B34, B35, B36, B37, B38, B39, B40
part C pins: C1, C2, C3, C4, C5, C6, C7, C8, C9, C10, C11, C12, C13, C14, C15, C16, C17, C18, C19, C20, C21, C22, C23, C24, C25, C26, C27, C28, C29, C30, C31, C32, C33, C34, C35, C36, C37, C38, C39, C40
part D pins: D1, D2, D3, D4, D5, D6, D7, D8, D9, D10, D11, D12, D13, D14, D15, D16, D17, D18, D19, D20, D21, D22, D23, D24, D25, D26, D27, D28, D29, D30, D31, D32, D33, D34, D35, D36, D37, D38, D39, D40
part E pins: E1, E2, E3, E4, E5, E6, E7, E8, E9, E10, E11, E12, E13, E14, E15, E16, E17, E18, E19, E20, E21, E22, E23, E24, E25, E26, E27, E28, E29, E30, E31, E32, E33, E34, E35, E36, E37, E38, E39, E40
part F pins: F1, F2, F3, F4, F5, F6, F7, F8, F9, F10, F11, F12, F13, F14, F15, F16, F17, F18, F19, F20, F21, F22, F23, F24, F25, F26, F27, F28, F29, F30, F31, F32, F33, F34, F35, F36, F37, F38, F39, F40
part G pins: G1, G2, G3, G4, G5, G6, G7, G8, G9, G10, G11, G12, G13, G14, G15, G16, G17, G18, G19, G20, G21, G22, G23, G24, G25, G26, G27, G28, G29, G30, G31, G32, G33, G34, G35, G36, G37, G38, G39, G40
part H pins: H1, H2, H3, H4, H5, H6, H7, H8, H9, H10, H11, H12, H13, H14, H15, H16, H17, H18, H19, H20, H21, H22, H23, H24, H25, H26, H27, H28, H29, H30, H31, H32, H33, H34, H35, H36, H37, H38, H39, H40
part I pins: J1, J2, J3, J4, J5, J6, J7, J8, J9, J10, J11, J12, J13, J14, J15, J16, J17, J18, J19, J20, J21, J22, J23, J24, J25, J26, J27, J28, J29, J30, J31, J32, J33, J34, J35, J36, J37, J38, J39, J40
part J pins: K1, K2, K3, K4, K5, K6, K7, K8, K9, K10, K11, K12, K13, K14, K15, K16, K17, K18, K19, K20, K21, K22, K23, K24, K25, K26, K27, K28, K29, K30, K31, K32, K33, K34, K35, K36, K37, K38, K39, K40
part K pins: L01, L02, L03, L04, L05, L06, L07, L08, L09, L10, L11, L12, L13, L14, L15, L16, L17, L18, L19, L20, L21, L22, L23, L24, L25, L26, L27, L28, L29, L30, L31, L32, L33, L34, L35, L36, L37, L38, L39, L40
part L pins: M01, M02, M03, M04, M05, M06, M07, M08, M09, M10, M11, M12, M13, M14, M15, M16, M17, M18, M19, M20, M21, M22, M23, M24, M25, M26, M27, M28, M29, M30, M31, M32, M33, M34, M35, M36, M37, M38, M39, M40
part M pins: Y01, Y02, Y03, Y04, Y05, Y06, Y07, Y08, Y09, Y10, Y11, Y12, Y13, Y14, Y15, Y16, Y17, Y18, Y19, Y20, Y21, Y22, Y23, Y24, Y25, Y26, Y27, Y28, Y29, Y30, Y31, Y32, Y33, Y34, Y35, Y36, Y37, Y38, Y39, Y40
part N pins: Z01, Z02, Z03, Z04, Z05, Z06, Z07, Z08, Z09, Z10, Z11, Z12, Z13, Z14, Z15, Z16, Z17, Z18, Z19, Z20, Z21, Z22, Z23, Z24, Z25, Z26, Z27, Z28, Z29, Z30, Z31, Z32, Z33, Z34, Z35, Z36, Z37, Z38, Z39, Z40

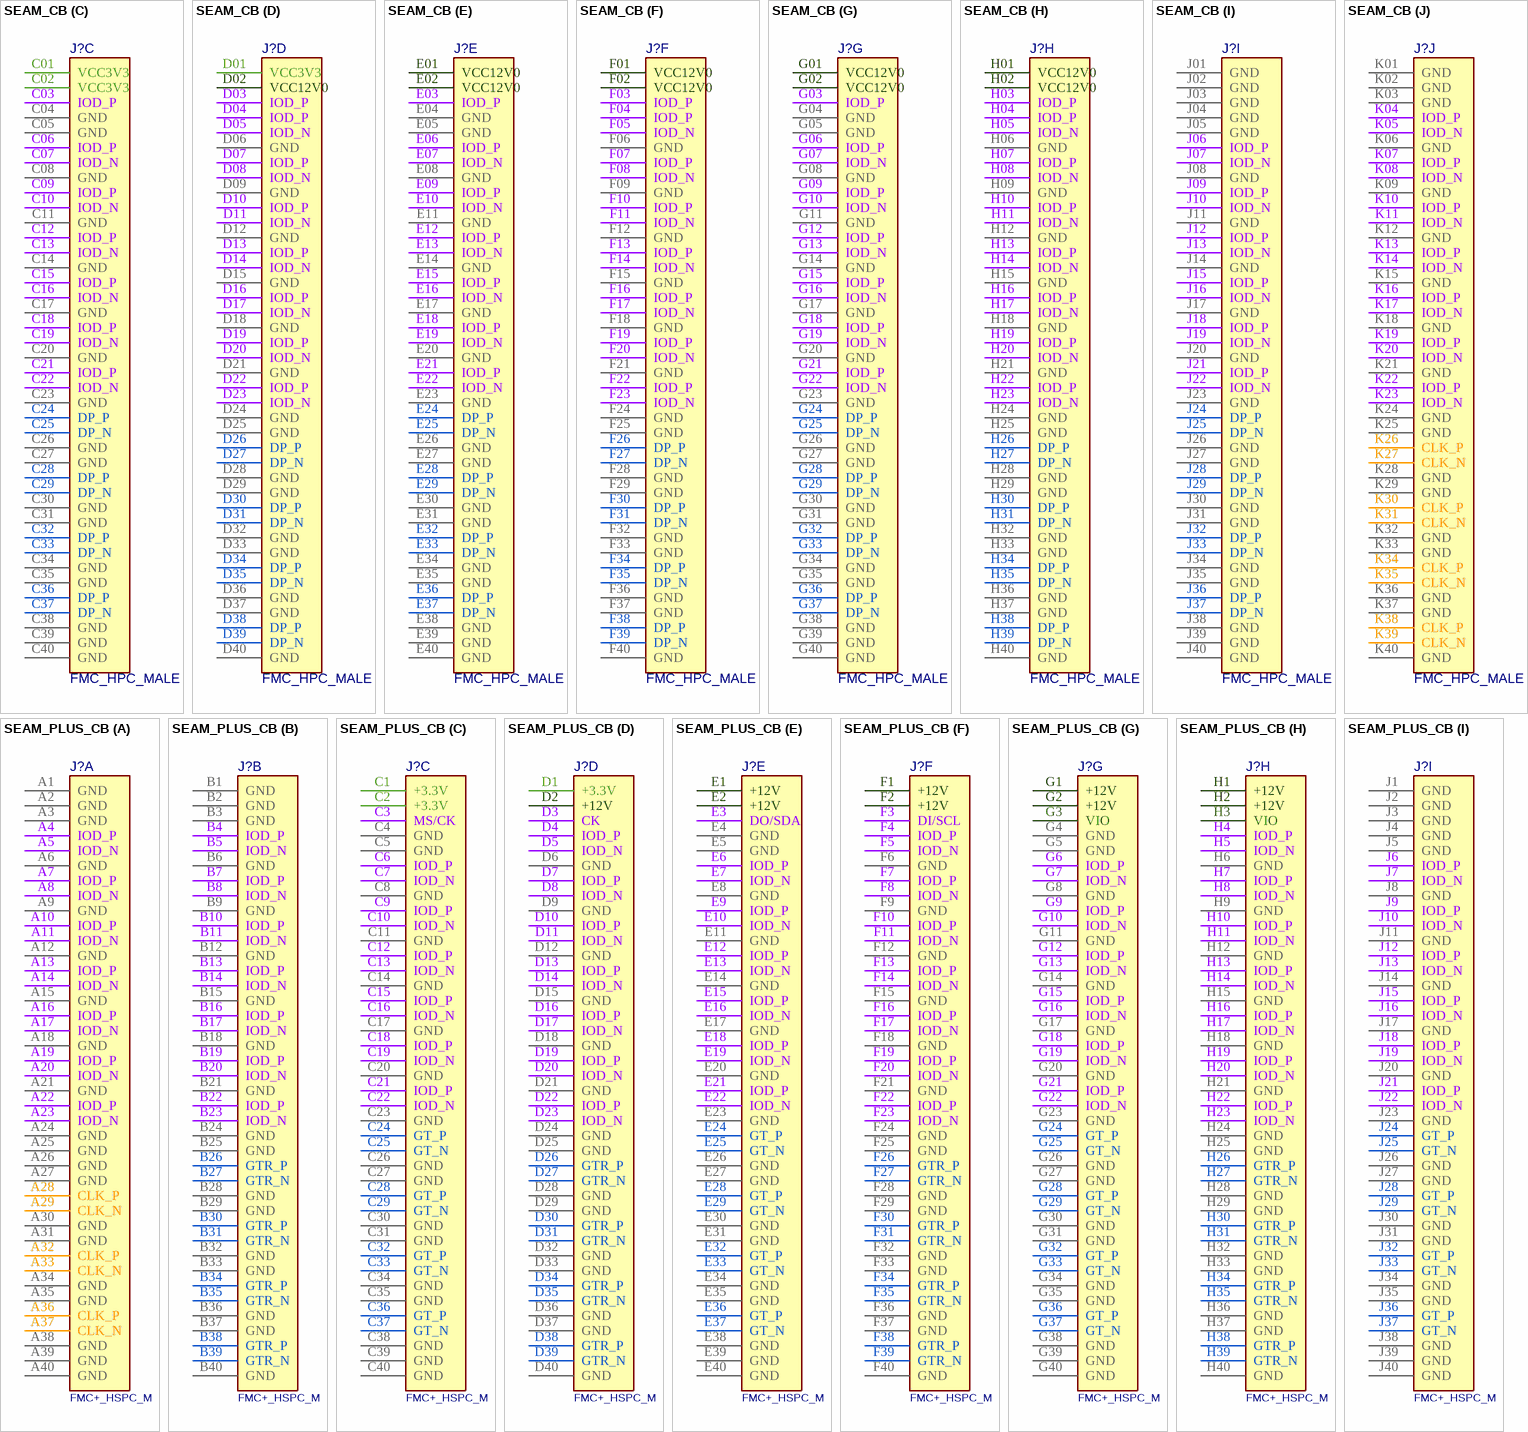
[diagram p22: symbols SEAM_CB to SEAM_PLUS_CB]

## SEAM_CB
designator J?, comment FMC_HPC_MALE
CONN, FMC, HPC, 400PIN, MALE for Module; DESC: ASP-134486 for female / ASP-134488 for male; MANF: SAMTEC, MOLEX; MANF_P#: ASP-134488-01; PARAM: Module; VALUE: FMC_HPC_MALE
footprint SEAM (FMC Module(FPGA mezzanine Card) HPC male, ASP-134488)
part A pins: A01 GND, A02 GND, A03 GND, A04 IOD_P, A05 IOD_N, A06 GND, A07 IOD_P, A08 IOD_N, A09 GND, A10 IOD_P, A11 IOD_N, A12 GND, A13 IOD_P, A14 IOD_N, A15 GND, A16 IOD_P, A17 IOD_N, A18 GND, A19 IOD_P, A20 IOD_N, A21 GND, A22 IOD_P, A23 IOD_N, A24 GND, A25 GND, A26 GND, A27 GND, A28 CLK_P, A29 CLK_N, A30 GND, A31 GND, A32 CLK_P, A33 CLK_N, A34 GND, A35 GND, A36 CLK_P, A37 CLK_N, A38 GND, A39 GND, A40 GND
part B pins: B01 GND, B02 GND, B03 GND, B04 IOD_P, B05 IOD_N, B06 GND, B07 IOD_P, B08 IOD_N, B09 GND, B10 IOD_P, B11 IOD_N, B12 GND, B13 IOD_P, B14 IOD_N, B15 GND, B16 IOD_P, B17 IOD_N, B18 GND, B19 IOD_P, B20 IOD_N, B21 GND, B22 IOD_P, B23 IOD_N, B24 GND, B25 GND, B26 DP_P, B27 DP_N, B28 GND, B29 GND, B30 DP_P, B31 DP_N, B32 GND, B33 GND, B34 DP_P, B35 DP_N, B36 GND, B37 GND, B38 DP_P, B39 DP_N, B40 GND
part C pins: C01 VCC3V3, C02 VCC3V3, C03 IOD_P, C04 GND, C05 GND, C06 IOD_P, C07 IOD_N, C08 GND, C09 IOD_P, C10 IOD_N, C11 GND, C12 IOD_P, C13 IOD_N, C14 GND, C15 IOD_P, C16 IOD_N, C17 GND, C18 IOD_P, C19 IOD_N, C20 GND, C21 IOD_P, C22 IOD_N, C23 GND, C24 DP_P, C25 DP_N, C26 GND, C27 GND, C28 DP_P, C29 DP_N, C30 GND, C31 GND, C32 DP_P, C33 DP_N, C34 GND, C35 GND, C36 DP_P, C37 DP_N, C38 GND, C39 GND, C40 GND
part D pins: D01 VCC3V3, D02 VCC12V0, D03 IOD_P, D04 IOD_P, D05 IOD_N, D06 GND, D07 IOD_P, D08 IOD_N, D09 GND, D10 IOD_P, D11 IOD_N, D12 GND, D13 IOD_P, D14 IOD_N, D15 GND, D16 IOD_P, D17 IOD_N, D18 GND, D19 IOD_P, D20 IOD_N, D21 GND, D22 IOD_P, D23 IOD_N, D24 GND, D25 GND, D26 DP_P, D27 DP_N, D28 GND, D29 GND, D30 DP_P, D31 DP_N, D32 GND, D33 GND, D34 DP_P, D35 DP_N, D36 GND, D37 GND, D38 DP_P, D39 DP_N, D40 GND
part E pins: E01 VCC12V0, E02 VCC12V0, E03 IOD_P, E04 GND, E05 GND, E06 IOD_P, E07 IOD_N, E08 GND, E09 IOD_P, E10 IOD_N, E11 GND, E12 IOD_P, E13 IOD_N, E14 GND, E15 IOD_P, E16 IOD_N, E17 GND, E18 IOD_P, E19 IOD_N, E20 GND, E21 IOD_P, E22 IOD_N, E23 GND, E24 DP_P, E25 DP_N, E26 GND, E27 GND, E28 DP_P, E29 DP_N, E30 GND, E31 GND, E32 DP_P, E33 DP_N, E34 GND, E35 GND, E36 DP_P, E37 DP_N, E38 GND, E39 GND, E40 GND
part F pins: F01 VCC12V0, F02 VCC12V0, F03 IOD_P, F04 IOD_P, F05 IOD_N, F06 GND, F07 IOD_P, F08 IOD_N, F09 GND, F10 IOD_P, F11 IOD_N, F12 GND, F13 IOD_P, F14 IOD_N, F15 GND, F16 IOD_P, F17 IOD_N, F18 GND, F19 IOD_P, F20 IOD_N, F21 GND, F22 IOD_P, F23 IOD_N, F24 GND, F25 GND, F26 DP_P, F27 DP_N, F28 GND, F29 GND, F30 DP_P, F31 DP_N, F32 GND, F33 GND, F34 DP_P, F35 DP_N, F36 GND, F37 GND, F38 DP_P, F39 DP_N, F40 GND
part G pins: G01 VCC12V0, G02 VCC12V0, G03 IOD_P, G04 GND, G05 GND, G06 IOD_P, G07 IOD_N, G08 GND, G09 IOD_P, G10 IOD_N, G11 GND, G12 IOD_P, G13 IOD_N, G14 GND, G15 IOD_P, G16 IOD_N, G17 GND, G18 IOD_P, G19 IOD_N, G20 GND, G21 IOD_P, G22 IOD_N, G23 GND, G24 DP_P, G25 DP_N, G26 GND, G27 GND, G28 DP_P, G29 DP_N, G30 GND, G31 GND, G32 DP_P, G33 DP_N, G34 GND, G35 GND, G36 DP_P, G37 DP_N, G38 GND, G39 GND, G40 GND
part H pins: H01 VCC12V0, H02 VCC12V0, H03 IOD_P, H04 IOD_P, H05 IOD_N, H06 GND, H07 IOD_P, H08 IOD_N, H09 GND, H10 IOD_P, H11 IOD_N, H12 GND, H13 IOD_P, H14 IOD_N, H15 GND, H16 IOD_P, H17 IOD_N, H18 GND, H19 IOD_P, H20 IOD_N, H21 GND, H22 IOD_P, H23 IOD_N, H24 GND, H25 GND, H26 DP_P, H27 DP_N, H28 GND, H29 GND, H30 DP_P, H31 DP_N, H32 GND, H33 GND, H34 DP_P, H35 DP_N, H36 GND, H37 GND, H38 DP_P, H39 DP_N, H40 GND
part I pins: J01 GND, J02 GND, J03 GND, J04 GND, J05 GND, J06 IOD_P, J07 IOD_N, J08 GND, J09 IOD_P, J10 IOD_N, J11 GND, J12 IOD_P, J13 IOD_N, J14 GND, J15 IOD_P, J16 IOD_N, J17 GND, J18 IOD_P, J19 IOD_N, J20 GND, J21 IOD_P, J22 IOD_N, J23 GND, J24 DP_P, J25 DP_N, J26 GND, J27 GND, J28 DP_P, J29 DP_N, J30 GND, J31 GND, J32 DP_P, J33 DP_N, J34 GND, J35 GND, J36 DP_P, J37 DP_N, J38 GND, J39 GND, J40 GND
part J pins: K01 GND, K02 GND, K03 GND, K04 IOD_P, K05 IOD_N, K06 GND, K07 IOD_P, K08 IOD_N, K09 GND, K10 IOD_P, K11 IOD_N, K12 GND, K13 IOD_P, K14 IOD_N, K15 GND, K16 IOD_P, K17 IOD_N, K18 GND, K19 IOD_P, K20 IOD_N, K21 GND, K22 IOD_P, K23 IOD_N, K24 GND, K25 GND, K26 CLK_P, K27 CLK_N, K28 GND, K29 GND, K30 CLK_P, K31 CLK_N, K32 GND, K33 GND, K34 CLK_P, K35 CLK_N, K36 GND, K37 GND, K38 CLK_P, K39 CLK_N, K40 GND

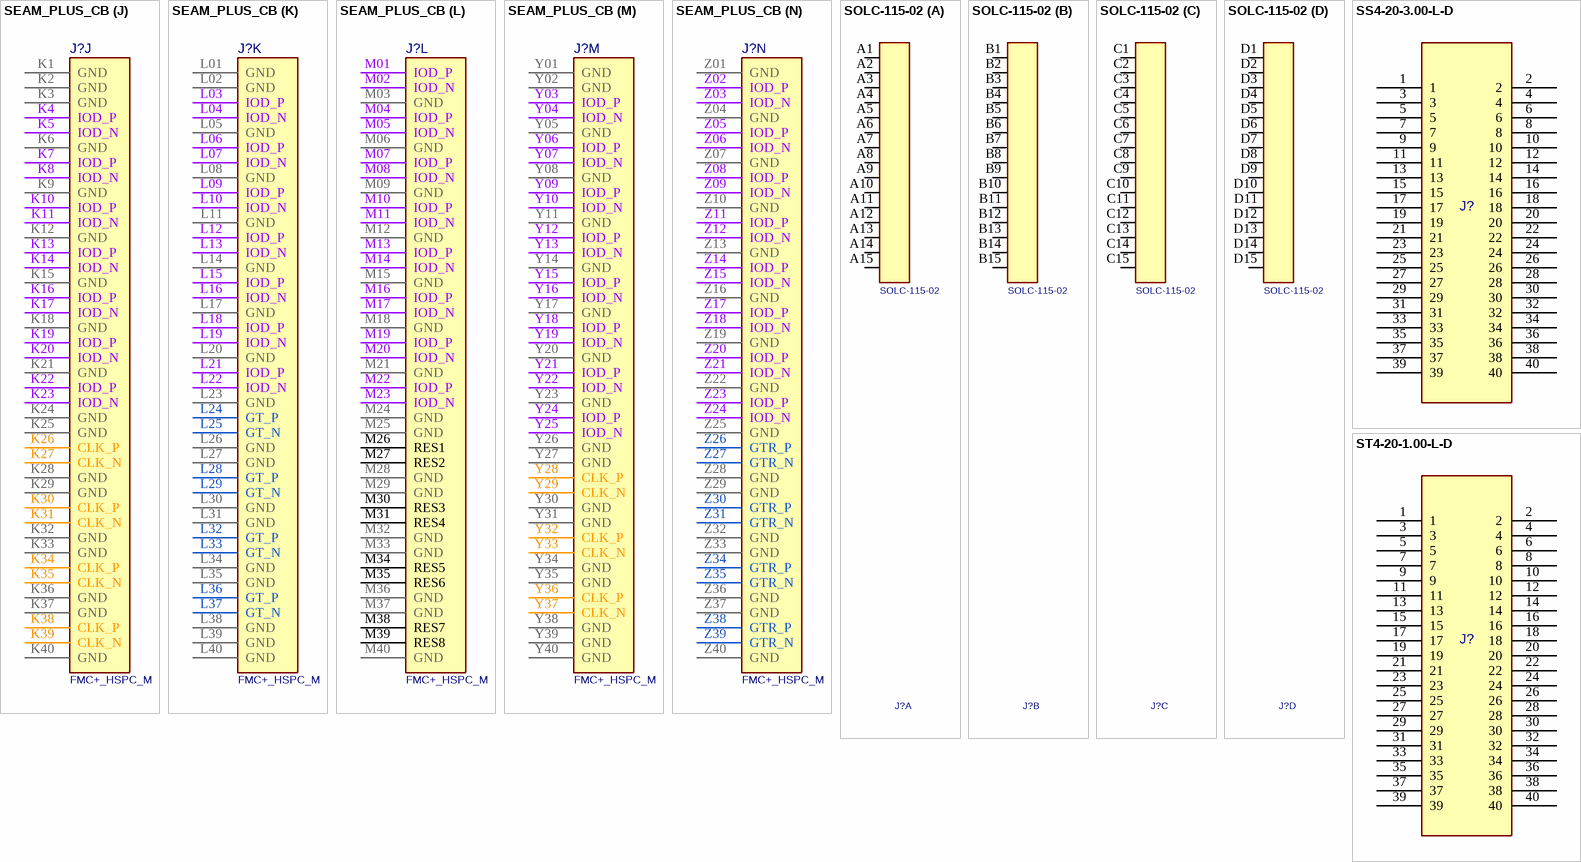
[diagram p23: symbols SEAM_PLUS_CB to ST4-20-1.00-L-D]